# Altium integrated library ST Microcontroller 8-Bit.IntLib: 1326 symbols (part 44 of 45)
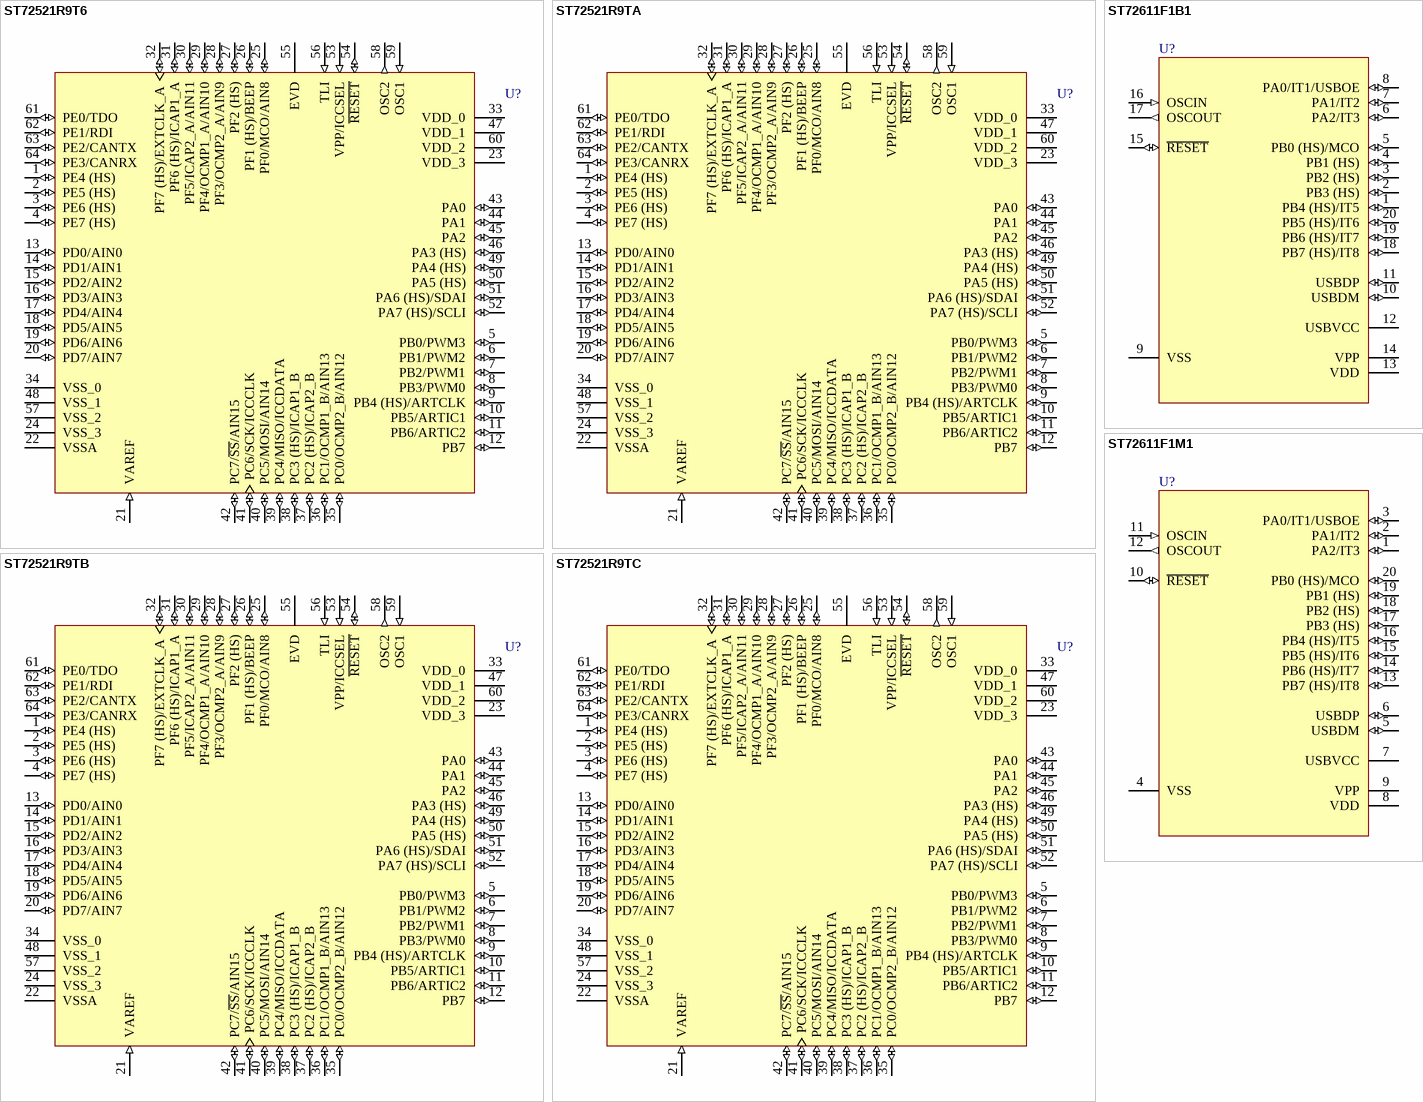
[diagram p210: symbols ST72521R9T6 to ST72611F1M1]

## ST72611F1M1
designator U?
8-Bit MCU with 4k ROM, 256b RAM, Low Speed USB with Three Endpoints, LVD, WDG and Timer, 20-Pin SOIC; Published: 26-May-2004; LatestRevisionDate: 13-Apr-2006; LatestRevisionNote: IPC-7351 Footprint Added.; DatasheetVersion: rev2.1, Jun-2003; PackageVersion: Jul-2001; PackageReference: SO20; Publisher: Altium Limited; PackageDescription: 20-Pin Plastic Small Outline Integrated Circuit 1.27 mm Pitch; Code_JEDEC: MS-013-AC; Code_IPC: SOIC127P1030-20; ComponentLink1Description: Manufacturer Link; ComponentLink1URL: http://www.st.com/; ComponentLink2Description: Datasheet; ComponentLink2URL: http://www.st.com/stonline/products/literature/ds/7212/st7261.pdf
footprint SO20_N (SOIC, 20-Leads, Body 12.8x7.5mm, Pitch 1.27mm, IPC Medium Density)
footprint SO20_L (SOIC, 20-Leads, Body 12.8x7.5mm, Pitch 1.27mm, IPC High Density)
footprint SO20_M (SOIC, 20-Leads, Body 12.8x7.5mm, Pitch 1.27mm, IPC Low Density)
3D model SO20 (20-Pin Plastic Small Outline Integrated Circuit 1.27 mm Pitch)
pins: 1 PA2/IT3 (io), 2 PA1/IT2 (io), 3 PA0/IT1/USBOE (io), 4 VSS (power), 5 USBDM (io), 6 USBDP (io), 7 USBVCC (power), 8 VDD (power), 9 VPP (power), 10 ~{RESET} (io), 11 OSCIN (in), 12 OSCOUT (out), 13 PB7 (HS)/IT8 (io), 14 PB6 (HS)/IT7 (io), 15 PB5 (HS)/IT6 (io), 16 PB4 (HS)/IT5 (io), 17 PB3 (HS) (io), 18 PB2 (HS) (io), 19 PB1 (HS) (io), 20 PB0 (HS)/MCO (io)

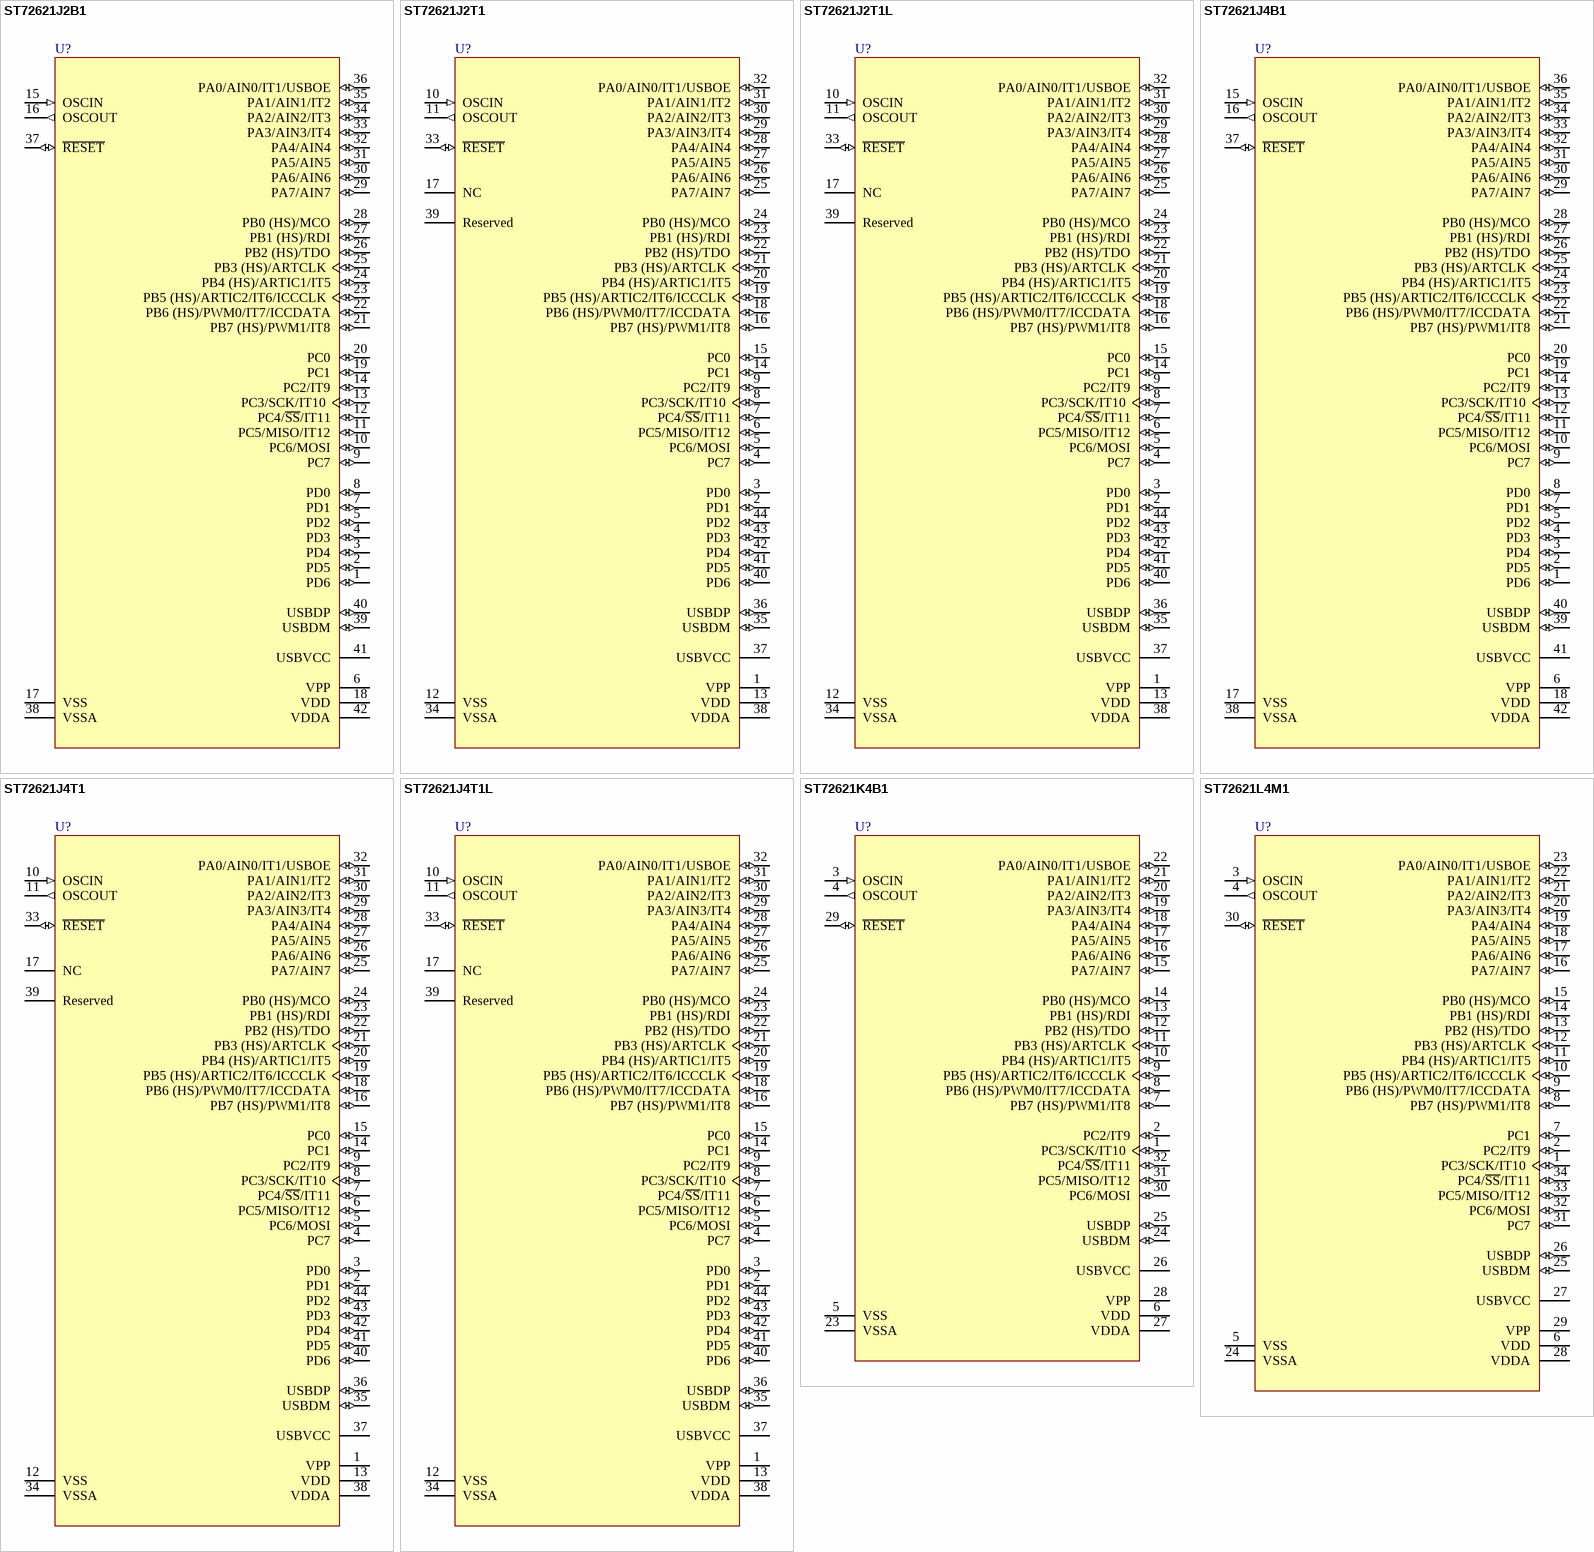
[diagram p160: symbols ST72621J2B1 to ST72621L4M1]

## ST72621J2B1
designator U?
8-Bit MCU with 8k ROM, 384b RAM, Low Speed USB, LVD, WDG, 10-Bit ADC, Two Timers, SCI and SPI, 42-Pin PDIP; Published: 26-May-2004; LatestRevisionDate: 06-Jun-2005; LatestRevisionNote: Stylized 3D Model Added.; DatasheetVersion: rev2.3, Oct-2003; PackageVersion: Oct-2003; PackageReference: PSDIP42; Publisher: Altium Limited; PackageDescription: DIP, Plastic Shrink; 42 Leads; Row Spacing 15.24 mm; Pitch 1.78 mm; ComponentLink1Description: Manufacturer Link; ComponentLink1URL: http://www.st.com/; ComponentLink2Description: Datasheet; ComponentLink2URL: http://www.st.com/stonline/products/literature/ds/6996/st72621j2.pdf
footprint PSDIP42 (DIP, Plastic Shrink; 42 Leads; Row Spacing 15.24 mm; Pitch 1.78 mm)
3D model PSDIP42 (DIP, Plastic Shrink; 42 Leads; Row Spacing 15.24 mm; Pitch 1.78 mm)
pins: 1 PD6 (io), 2 PD5 (io), 3 PD4 (io), 4 PD3 (io), 5 PD2 (io), 6 VPP (power), 7 PD1 (io), 8 PD0 (io), 9 PC7 (io), 10 PC6/MOSI (io), 11 PC5/MISO/IT12 (io), 12 PC4/~{SS}/IT11 (io), 13 PC3/SCK/IT10 (io), 14 PC2/IT9 (io), 15 OSCIN (in), 16 OSCOUT (out), 17 VSS (power), 18 VDD (power), 19 PC1 (io), 20 PC0 (io), 21 PB7 (HS)/PWM1/IT8 (io), 22 PB6 (HS)/PWM0/IT7/ICCDATA (io), 23 PB5 (HS)/ARTIC2/IT6/ICCCLK (io), 24 PB4 (HS)/ARTIC1/IT5 (io), 25 PB3 (HS)/ARTCLK (io), 26 PB2 (HS)/TDO (io), 27 PB1 (HS)/RDI (io), 28 PB0 (HS)/MCO (io), 29 PA7/AIN7 (io), 30 PA6/AIN6 (io), 31 PA5/AIN5 (io), 32 PA4/AIN4 (io), 33 PA3/AIN3/IT4 (io), 34 PA2/AIN2/IT3 (io), 35 PA1/AIN1/IT2 (io), 36 PA0/AIN0/IT1/USBOE (io), 37 ~{RESET} (io), 38 VSSA (power), 39 USBDM (io), 40 USBDP (io), 41 USBVCC (power), 42 VDDA (power)

## ST72621J2T1
designator U?
8-Bit MCU with 8k ROM, 384b RAM, Low Speed USB, LVD, WDG, 10-Bit ADC, Two Timers, SCI and SPI, 44-Pin TQFP; Published: 26-May-2004; LatestRevisionDate: 13-Apr-2006; LatestRevisionNote: IPC-7351 Footprint Added.; DatasheetVersion: rev2.3, Oct-2003; PackageVersion: Oct-2003; PackageReference: TQFP44; Publisher: Altium Limited; PackageDescription: 44-Pin Thin Plastic Quad Flat Pack 0.8 mm Pitch; ComponentLink1Description: Manufacturer Link; ComponentLink1URL: http://www.st.com/; ComponentLink2Description: Datasheet; ComponentLink2URL: http://www.st.com/stonline/products/literature/ds/6996/st72621j2.pdf
footprint TQFP44_N (Thin QFP, 44-Leads, Body 10x10mm, Pitch 0.8mm, IPC Medium Density)
footprint TQFP44_L (Thin QFP, 44-Leads, Body 10x10mm, Pitch 0.8mm, IPC High Density)
footprint TQFP44_M (Thin QFP, 44-Leads, Body 10x10mm, Pitch 0.8mm, IPC Low Density)
3D model ST72621-TQFP44 (44-Pin Thin Plastic Quad Flat Pack 0.8 mm Pitch)
pins: 1 VPP (power), 2 PD1 (io), 3 PD0 (io), 4 PC7 (io), 5 PC6/MOSI (io), 6 PC5/MISO/IT12 (io), 7 PC4/~{SS}/IT11 (io), 8 PC3/SCK/IT10 (io), 9 PC2/IT9 (io), 10 OSCIN (in), 11 OSCOUT (out), 12 VSS (power), 13 VDD (power), 14 PC1 (io), 15 PC0 (io), 16 PB7 (HS)/PWM1/IT8 (io), 17 NC, 18 PB6 (HS)/PWM0/IT7/ICCDATA (io), 19 PB5 (HS)/ARTIC2/IT6/ICCCLK (io), 20 PB4 (HS)/ARTIC1/IT5 (io), 21 PB3 (HS)/ARTCLK (io), 22 PB2 (HS)/TDO (io), 23 PB1 (HS)/RDI (io), 24 PB0 (HS)/MCO (io), 25 PA7/AIN7 (io), 26 PA6/AIN6 (io), 27 PA5/AIN5 (io), 28 PA4/AIN4 (io), 29 PA3/AIN3/IT4 (io), 30 PA2/AIN2/IT3 (io), 31 PA1/AIN1/IT2 (io), 32 PA0/AIN0/IT1/USBOE (io), 33 ~{RESET} (io), 34 VSSA (power), 35 USBDM (io), 36 USBDP (io), 37 USBVCC (power), 38 VDDA (power), 39 Reserved, 40 PD6 (io), 41 PD5 (io), 42 PD4 (io), 43 PD3 (io), 44 PD2 (io)

## ST72621J2T1L
designator U?
8-Bit MCU with 8k ROM, 384b RAM, Low Speed USB, LVD, WDG, 10-Bit ADC, Two Timers, SCI and SPI, 44-Pin TQFP, Low Voltage; Published: 26-May-2004; LatestRevisionDate: 13-Apr-2006; LatestRevisionNote: IPC-7351 Footprint Added.; DatasheetVersion: rev2.3, Oct-2003; PackageVersion: Oct-2003; PackageReference: TQFP44; Publisher: Altium Limited; PackageDescription: 44-Pin Thin Plastic Quad Flat Pack 0.8 mm Pitch; ComponentLink1Description: Manufacturer Link; ComponentLink1URL: http://www.st.com/; ComponentLink2Description: Datasheet; ComponentLink2URL: http://www.st.com/stonline/products/literature/ds/6996/st72621j2.pdf
footprint TQFP44_N (Thin QFP, 44-Leads, Body 10x10mm, Pitch 0.8mm, IPC Medium Density)
footprint TQFP44_L (Thin QFP, 44-Leads, Body 10x10mm, Pitch 0.8mm, IPC High Density)
footprint TQFP44_M (Thin QFP, 44-Leads, Body 10x10mm, Pitch 0.8mm, IPC Low Density)
3D model ST72621-TQFP44 (44-Pin Thin Plastic Quad Flat Pack 0.8 mm Pitch)
pins: 1 VPP (power), 2 PD1 (io), 3 PD0 (io), 4 PC7 (io), 5 PC6/MOSI (io), 6 PC5/MISO/IT12 (io), 7 PC4/~{SS}/IT11 (io), 8 PC3/SCK/IT10 (io), 9 PC2/IT9 (io), 10 OSCIN (in), 11 OSCOUT (out), 12 VSS (power), 13 VDD (power), 14 PC1 (io), 15 PC0 (io), 16 PB7 (HS)/PWM1/IT8 (io), 17 NC, 18 PB6 (HS)/PWM0/IT7/ICCDATA (io), 19 PB5 (HS)/ARTIC2/IT6/ICCCLK (io), 20 PB4 (HS)/ARTIC1/IT5 (io), 21 PB3 (HS)/ARTCLK (io), 22 PB2 (HS)/TDO (io), 23 PB1 (HS)/RDI (io), 24 PB0 (HS)/MCO (io), 25 PA7/AIN7 (io), 26 PA6/AIN6 (io), 27 PA5/AIN5 (io), 28 PA4/AIN4 (io), 29 PA3/AIN3/IT4 (io), 30 PA2/AIN2/IT3 (io), 31 PA1/AIN1/IT2 (io), 32 PA0/AIN0/IT1/USBOE (io), 33 ~{RESET} (io), 34 VSSA (power), 35 USBDM (io), 36 USBDP (io), 37 USBVCC (power), 38 VDDA (power), 39 Reserved, 40 PD6 (io), 41 PD5 (io), 42 PD4 (io), 43 PD3 (io), 44 PD2 (io)

## ST72621J4B1
designator U?
8-Bit MCU with 16k ROM, 768b RAM, Low Speed USB, LVD, WDG, 10-Bit ADC, Two Timers, SCI and SPI, 42-Pin PDIP; Published: 26-May-2004; LatestRevisionDate: 06-Jun-2005; LatestRevisionNote: Stylized 3D Model Added.; DatasheetVersion: rev2.3, Oct-2003; PackageVersion: Oct-2003; PackageReference: PSDIP42; Publisher: Altium Limited; PackageDescription: DIP, Plastic Shrink; 42 Leads; Row Spacing 15.24 mm; Pitch 1.78 mm; ComponentLink1Description: Manufacturer Link; ComponentLink1URL: http://www.st.com/; ComponentLink2Description: Datasheet; ComponentLink2URL: http://www.st.com/stonline/products/literature/ds/6996/st72621j4.pdf
footprint PSDIP42 (DIP, Plastic Shrink; 42 Leads; Row Spacing 15.24 mm; Pitch 1.78 mm)
3D model PSDIP42 (DIP, Plastic Shrink; 42 Leads; Row Spacing 15.24 mm; Pitch 1.78 mm)
pins: 1 PD6 (io), 2 PD5 (io), 3 PD4 (io), 4 PD3 (io), 5 PD2 (io), 6 VPP (power), 7 PD1 (io), 8 PD0 (io), 9 PC7 (io), 10 PC6/MOSI (io), 11 PC5/MISO/IT12 (io), 12 PC4/~{SS}/IT11 (io), 13 PC3/SCK/IT10 (io), 14 PC2/IT9 (io), 15 OSCIN (in), 16 OSCOUT (out), 17 VSS (power), 18 VDD (power), 19 PC1 (io), 20 PC0 (io), 21 PB7 (HS)/PWM1/IT8 (io), 22 PB6 (HS)/PWM0/IT7/ICCDATA (io), 23 PB5 (HS)/ARTIC2/IT6/ICCCLK (io), 24 PB4 (HS)/ARTIC1/IT5 (io), 25 PB3 (HS)/ARTCLK (io), 26 PB2 (HS)/TDO (io), 27 PB1 (HS)/RDI (io), 28 PB0 (HS)/MCO (io), 29 PA7/AIN7 (io), 30 PA6/AIN6 (io), 31 PA5/AIN5 (io), 32 PA4/AIN4 (io), 33 PA3/AIN3/IT4 (io), 34 PA2/AIN2/IT3 (io), 35 PA1/AIN1/IT2 (io), 36 PA0/AIN0/IT1/USBOE (io), 37 ~{RESET} (io), 38 VSSA (power), 39 USBDM (io), 40 USBDP (io), 41 USBVCC (power), 42 VDDA (power)

## ST72621J4T1
designator U?
8-Bit MCU with 16k ROM, 768b RAM, Low Speed USB, LVD, WDG, 10-Bit ADC, Two Timers, SCI and SPI, 44-Pin TQFP; Published: 26-May-2004; LatestRevisionDate: 13-Apr-2006; LatestRevisionNote: IPC-7351 Footprint Added.; DatasheetVersion: rev2.3, Oct-2003; PackageVersion: Oct-2003; PackageReference: TQFP44; Publisher: Altium Limited; PackageDescription: 44-Pin Thin Plastic Quad Flat Pack 0.8 mm Pitch; ComponentLink1Description: Manufacturer Link; ComponentLink1URL: http://www.st.com/; ComponentLink2Description: Datasheet; ComponentLink2URL: http://www.st.com/stonline/products/literature/ds/6996/st72621j4.pdf
footprint TQFP44_N (Thin QFP, 44-Leads, Body 10x10mm, Pitch 0.8mm, IPC Medium Density)
footprint TQFP44_L (Thin QFP, 44-Leads, Body 10x10mm, Pitch 0.8mm, IPC High Density)
footprint TQFP44_M (Thin QFP, 44-Leads, Body 10x10mm, Pitch 0.8mm, IPC Low Density)
3D model ST72621-TQFP44 (44-Pin Thin Plastic Quad Flat Pack 0.8 mm Pitch)
pins: 1 VPP (power), 2 PD1 (io), 3 PD0 (io), 4 PC7 (io), 5 PC6/MOSI (io), 6 PC5/MISO/IT12 (io), 7 PC4/~{SS}/IT11 (io), 8 PC3/SCK/IT10 (io), 9 PC2/IT9 (io), 10 OSCIN (in), 11 OSCOUT (out), 12 VSS (power), 13 VDD (power), 14 PC1 (io), 15 PC0 (io), 16 PB7 (HS)/PWM1/IT8 (io), 17 NC, 18 PB6 (HS)/PWM0/IT7/ICCDATA (io), 19 PB5 (HS)/ARTIC2/IT6/ICCCLK (io), 20 PB4 (HS)/ARTIC1/IT5 (io), 21 PB3 (HS)/ARTCLK (io), 22 PB2 (HS)/TDO (io), 23 PB1 (HS)/RDI (io), 24 PB0 (HS)/MCO (io), 25 PA7/AIN7 (io), 26 PA6/AIN6 (io), 27 PA5/AIN5 (io), 28 PA4/AIN4 (io), 29 PA3/AIN3/IT4 (io), 30 PA2/AIN2/IT3 (io), 31 PA1/AIN1/IT2 (io), 32 PA0/AIN0/IT1/USBOE (io), 33 ~{RESET} (io), 34 VSSA (power), 35 USBDM (io), 36 USBDP (io), 37 USBVCC (power), 38 VDDA (power), 39 Reserved, 40 PD6 (io), 41 PD5 (io), 42 PD4 (io), 43 PD3 (io), 44 PD2 (io)

## ST72621J4T1L
designator U?
8-Bit MCU with 16k ROM, 768b RAM, Low Speed USB, LVD, WDG, 10-Bit ADC, Two Timers, SCI and SPI, 44-Pin TQFP, Low Voltage; Published: 26-May-2004; LatestRevisionDate: 13-Apr-2006; LatestRevisionNote: IPC-7351 Footprint Added.; DatasheetVersion: rev2.3, Oct-2003; PackageVersion: Oct-2003; PackageReference: TQFP44; Publisher: Altium Limited; PackageDescription: 44-Pin Thin Plastic Quad Flat Pack 0.8 mm Pitch; ComponentLink1Description: Manufacturer Link; ComponentLink1URL: http://www.st.com/; ComponentLink2Description: Datasheet; ComponentLink2URL: http://www.st.com/stonline/products/literature/ds/6996/st72621j4.pdf
footprint TQFP44_N (Thin QFP, 44-Leads, Body 10x10mm, Pitch 0.8mm, IPC Medium Density)
footprint TQFP44_L (Thin QFP, 44-Leads, Body 10x10mm, Pitch 0.8mm, IPC High Density)
footprint TQFP44_M (Thin QFP, 44-Leads, Body 10x10mm, Pitch 0.8mm, IPC Low Density)
3D model ST72621-TQFP44 (44-Pin Thin Plastic Quad Flat Pack 0.8 mm Pitch)
pins: 1 VPP (power), 2 PD1 (io), 3 PD0 (io), 4 PC7 (io), 5 PC6/MOSI (io), 6 PC5/MISO/IT12 (io), 7 PC4/~{SS}/IT11 (io), 8 PC3/SCK/IT10 (io), 9 PC2/IT9 (io), 10 OSCIN (in), 11 OSCOUT (out), 12 VSS (power), 13 VDD (power), 14 PC1 (io), 15 PC0 (io), 16 PB7 (HS)/PWM1/IT8 (io), 17 NC, 18 PB6 (HS)/PWM0/IT7/ICCDATA (io), 19 PB5 (HS)/ARTIC2/IT6/ICCCLK (io), 20 PB4 (HS)/ARTIC1/IT5 (io), 21 PB3 (HS)/ARTCLK (io), 22 PB2 (HS)/TDO (io), 23 PB1 (HS)/RDI (io), 24 PB0 (HS)/MCO (io), 25 PA7/AIN7 (io), 26 PA6/AIN6 (io), 27 PA5/AIN5 (io), 28 PA4/AIN4 (io), 29 PA3/AIN3/IT4 (io), 30 PA2/AIN2/IT3 (io), 31 PA1/AIN1/IT2 (io), 32 PA0/AIN0/IT1/USBOE (io), 33 ~{RESET} (io), 34 VSSA (power), 35 USBDM (io), 36 USBDP (io), 37 USBVCC (power), 38 VDDA (power), 39 Reserved, 40 PD6 (io), 41 PD5 (io), 42 PD4 (io), 43 PD3 (io), 44 PD2 (io)

## ST72621K4B1
designator U?
8-Bit MCU with 16k ROM, 768b RAM, Low Speed USB, LVD, WDG, 10-Bit ADC, Two Timers, SCI, SPI, 32-Pin PDIP; Published: 26-May-2004; LatestRevisionDate: 06-Jun-2005; LatestRevisionNote: Stylized 3D Model Added.; DatasheetVersion: rev2.3, Oct-2003; PackageVersion: rev1.7, Oct-2001; PackageReference: PSDIP32; Publisher: Altium Limited; PackageDescription: DIP, Plastic Shrink; 32 Leads; Row Spacing 10.16 mm; Pitch 1.78 mm; ComponentLink1Description: Manufacturer Link; ComponentLink1URL: http://www.st.com/; ComponentLink2Description: Datasheet; ComponentLink2URL: http://www.st.com/stonline/products/literature/ds/6996/st72621k4.pdf
footprint PSDIP32 (DIP, Plastic Shrink; 32 Leads; Row Spacing 10.16 mm; Pitch 1.78 mm)
3D model PSDIP32 (DIP, Plastic Shrink; 32 Leads; Row Spacing 10.16 mm; Pitch 1.78 mm)
pins: 1 PC3/SCK/IT10 (io), 2 PC2/IT9 (io), 3 OSCIN (in), 4 OSCOUT (out), 5 VSS (power), 6 VDD (power), 7 PB7 (HS)/PWM1/IT8 (io), 8 PB6 (HS)/PWM0/IT7/ICCDATA (io), 9 PB5 (HS)/ARTIC2/IT6/ICCCLK (io), 10 PB4 (HS)/ARTIC1/IT5 (io), 11 PB3 (HS)/ARTCLK (io), 12 PB2 (HS)/TDO (io), 13 PB1 (HS)/RDI (io), 14 PB0 (HS)/MCO (io), 15 PA7/AIN7 (io), 16 PA6/AIN6 (io), 17 PA5/AIN5 (io), 18 PA4/AIN4 (io), 19 PA3/AIN3/IT4 (io), 20 PA2/AIN2/IT3 (io), 21 PA1/AIN1/IT2 (io), 22 PA0/AIN0/IT1/USBOE (io), 23 VSSA (power), 24 USBDM (io), 25 USBDP (io), 26 USBVCC (power), 27 VDDA (power), 28 VPP (power), 29 ~{RESET} (io), 30 PC6/MOSI (io), 31 PC5/MISO/IT12 (io), 32 PC4/~{SS}/IT11 (io)

## ST72621L4M1
designator U?
8-Bit MCU with 16k ROM, 768b RAM, Low Speed USB, LVD, WDG, 10-Bit ADC, Two Timers, SCI, SPI, 34-Pin SOIC; Published: 26-May-2004; LatestRevisionDate: 13-Apr-2006; LatestRevisionNote: IPC-7351 Footprint Added.; DatasheetVersion: rev2.3, Oct-2003; PackageVersion: rev1.7, Oct-2001; PackageReference: SO34S; Publisher: Altium Limited; PackageDescription: 34-Pin Small Outline Package 1.02 mm Pitch; ComponentLink1Description: Manufacturer Link; ComponentLink1URL: http://www.st.com/; ComponentLink2Description: Datasheet; ComponentLink2URL: http://www.st.com/stonline/products/literature/ds/6996/st72621l4.pdf
footprint SO34S_N (SOP, 34-Leads, Body 17.9x7.51mm, Pitch 1.02mm, IPC Medium Density)
footprint SO34S_L (SOP, 34-Leads, Body 17.9x7.51mm, Pitch 1.02mm, IPC High Density)
footprint SO34S_M (SOP, 34-Leads, Body 17.9x7.51mm, Pitch 1.02mm, IPC Low Density)
3D model SO34S (34-Pin Small Outline Package 1.02 mm Pitch)
pins: 1 PC3/SCK/IT10 (io), 2 PC2/IT9 (io), 3 OSCIN (in), 4 OSCOUT (out), 5 VSS (power), 6 VDD (power), 7 PC1 (io), 8 PB7 (HS)/PWM1/IT8 (io), 9 PB6 (HS)/PWM0/IT7/ICCDATA (io), 10 PB5 (HS)/ARTIC2/IT6/ICCCLK (io), 11 PB4 (HS)/ARTIC1/IT5 (io), 12 PB3 (HS)/ARTCLK (io), 13 PB2 (HS)/TDO (io), 14 PB1 (HS)/RDI (io), 15 PB0 (HS)/MCO (io), 16 PA7/AIN7 (io), 17 PA6/AIN6 (io), 18 PA5/AIN5 (io), 19 PA4/AIN4 (io), 20 PA3/AIN3/IT4 (io), 21 PA2/AIN2/IT3 (io), 22 PA1/AIN1/IT2 (io), 23 PA0/AIN0/IT1/USBOE (io), 24 VSSA (power), 25 USBDM (io), 26 USBDP (io), 27 USBVCC (power), 28 VDDA (power), 29 VPP (power), 30 ~{RESET} (io), 31 PC7 (io), 32 PC6/MOSI (io), 33 PC5/MISO/IT12 (io), 34 PC4/~{SS}/IT11 (io)

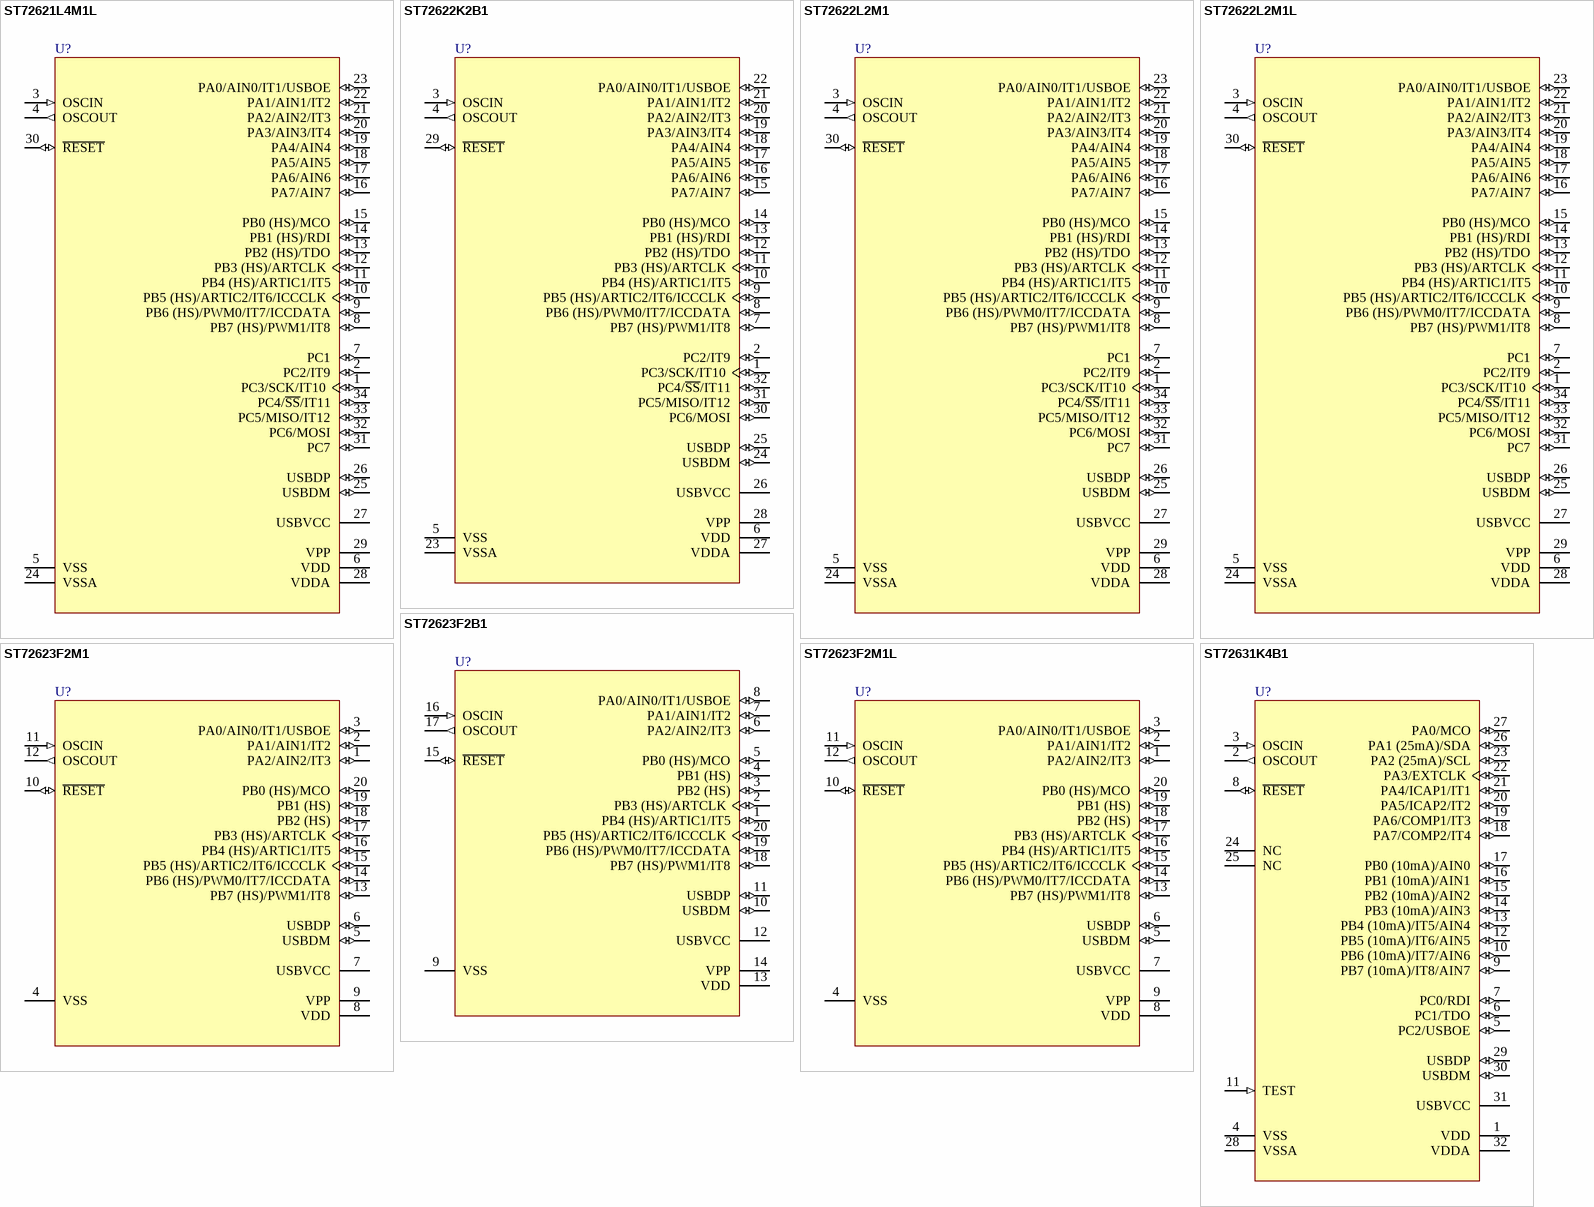
[diagram p161: symbols ST72621L4M1L to ST72631K4B1]

## ST72621L4M1L
designator U?
8-Bit MCU with 16k ROM, 768b RAM, Low Speed USB, LVD, WDG, 10-Bit ADC, Two Timers, SCI, SPI, 34-Pin SOIC, Low Voltage; Published: 26-May-2004; LatestRevisionDate: 13-Apr-2006; LatestRevisionNote: IPC-7351 Footprint Added.; DatasheetVersion: rev2.3, Oct-2003; PackageVersion: rev1.7, Oct-2001; PackageReference: SO34S; Publisher: Altium Limited; PackageDescription: 34-Pin Small Outline Package 1.02 mm Pitch; ComponentLink1Description: Manufacturer Link; ComponentLink1URL: http://www.st.com/; ComponentLink2Description: Datasheet; ComponentLink2URL: http://www.st.com/stonline/products/literature/ds/6996/st72621l4.pdf
footprint SO34S_N (SOP, 34-Leads, Body 17.9x7.51mm, Pitch 1.02mm, IPC Medium Density)
footprint SO34S_L (SOP, 34-Leads, Body 17.9x7.51mm, Pitch 1.02mm, IPC High Density)
footprint SO34S_M (SOP, 34-Leads, Body 17.9x7.51mm, Pitch 1.02mm, IPC Low Density)
3D model SO34S (34-Pin Small Outline Package 1.02 mm Pitch)
pins: 1 PC3/SCK/IT10 (io), 2 PC2/IT9 (io), 3 OSCIN (in), 4 OSCOUT (out), 5 VSS (power), 6 VDD (power), 7 PC1 (io), 8 PB7 (HS)/PWM1/IT8 (io), 9 PB6 (HS)/PWM0/IT7/ICCDATA (io), 10 PB5 (HS)/ARTIC2/IT6/ICCCLK (io), 11 PB4 (HS)/ARTIC1/IT5 (io), 12 PB3 (HS)/ARTCLK (io), 13 PB2 (HS)/TDO (io), 14 PB1 (HS)/RDI (io), 15 PB0 (HS)/MCO (io), 16 PA7/AIN7 (io), 17 PA6/AIN6 (io), 18 PA5/AIN5 (io), 19 PA4/AIN4 (io), 20 PA3/AIN3/IT4 (io), 21 PA2/AIN2/IT3 (io), 22 PA1/AIN1/IT2 (io), 23 PA0/AIN0/IT1/USBOE (io), 24 VSSA (power), 25 USBDM (io), 26 USBDP (io), 27 USBVCC (power), 28 VDDA (power), 29 VPP (power), 30 ~{RESET} (io), 31 PC7 (io), 32 PC6/MOSI (io), 33 PC5/MISO/IT12 (io), 34 PC4/~{SS}/IT11 (io)

## ST72622K2B1
designator U?
8-Bit MCU with 8k ROM, 384b RAM, Low Speed USB, LVD, WDG, 10-Bit ADC, Two Timers and SPI, 32-Pin PDIP; Published: 26-May-2004; LatestRevisionDate: 06-Jun-2005; LatestRevisionNote: Stylized 3D Model Added.; DatasheetVersion: rev2.3, Oct-2003; PackageVersion: rev1.7, Oct-2001; PackageReference: PSDIP32; Publisher: Altium Limited; PackageDescription: DIP, Plastic Shrink; 32 Leads; Row Spacing 10.16 mm; Pitch 1.78 mm; ComponentLink1Description: Manufacturer Link; ComponentLink1URL: http://www.st.com/; ComponentLink2Description: Datasheet; ComponentLink2URL: http://www.st.com/stonline/products/literature/ds/6996/st72622k2.pdf
footprint PSDIP32 (DIP, Plastic Shrink; 32 Leads; Row Spacing 10.16 mm; Pitch 1.78 mm)
3D model PSDIP32 (DIP, Plastic Shrink; 32 Leads; Row Spacing 10.16 mm; Pitch 1.78 mm)
pins: 1 PC3/SCK/IT10 (io), 2 PC2/IT9 (io), 3 OSCIN (in), 4 OSCOUT (out), 5 VSS (power), 6 VDD (power), 7 PB7 (HS)/PWM1/IT8 (io), 8 PB6 (HS)/PWM0/IT7/ICCDATA (io), 9 PB5 (HS)/ARTIC2/IT6/ICCCLK (io), 10 PB4 (HS)/ARTIC1/IT5 (io), 11 PB3 (HS)/ARTCLK (io), 12 PB2 (HS)/TDO (io), 13 PB1 (HS)/RDI (io), 14 PB0 (HS)/MCO (io), 15 PA7/AIN7 (io), 16 PA6/AIN6 (io), 17 PA5/AIN5 (io), 18 PA4/AIN4 (io), 19 PA3/AIN3/IT4 (io), 20 PA2/AIN2/IT3 (io), 21 PA1/AIN1/IT2 (io), 22 PA0/AIN0/IT1/USBOE (io), 23 VSSA (power), 24 USBDM (io), 25 USBDP (io), 26 USBVCC (power), 27 VDDA (power), 28 VPP (power), 29 ~{RESET} (io), 30 PC6/MOSI (io), 31 PC5/MISO/IT12 (io), 32 PC4/~{SS}/IT11 (io)

## ST72622L2M1
designator U?
8-Bit MCU with 8k ROM, 384b RAM, Low Speed USB, LVD, WDG, 10-Bit ADC, Two Timers and SPI, 34-Pin SOIC; Published: 26-May-2004; LatestRevisionDate: 13-Apr-2006; LatestRevisionNote: IPC-7351 Footprint Added.; DatasheetVersion: rev2.3, Oct-2003; PackageVersion: rev1.7, Oct-2001; PackageReference: SO34S; Publisher: Altium Limited; PackageDescription: 34-Pin Small Outline Package 1.02 mm Pitch; ComponentLink1Description: Manufacturer Link; ComponentLink1URL: http://www.st.com/; ComponentLink2Description: Datasheet; ComponentLink2URL: http://www.st.com/stonline/products/literature/ds/6996/st72622l2.pdf
footprint SO34S_N (SOP, 34-Leads, Body 17.9x7.51mm, Pitch 1.02mm, IPC Medium Density)
footprint SO34S_L (SOP, 34-Leads, Body 17.9x7.51mm, Pitch 1.02mm, IPC High Density)
footprint SO34S_M (SOP, 34-Leads, Body 17.9x7.51mm, Pitch 1.02mm, IPC Low Density)
3D model SO34S (34-Pin Small Outline Package 1.02 mm Pitch)
pins: 1 PC3/SCK/IT10 (io), 2 PC2/IT9 (io), 3 OSCIN (in), 4 OSCOUT (out), 5 VSS (power), 6 VDD (power), 7 PC1 (io), 8 PB7 (HS)/PWM1/IT8 (io), 9 PB6 (HS)/PWM0/IT7/ICCDATA (io), 10 PB5 (HS)/ARTIC2/IT6/ICCCLK (io), 11 PB4 (HS)/ARTIC1/IT5 (io), 12 PB3 (HS)/ARTCLK (io), 13 PB2 (HS)/TDO (io), 14 PB1 (HS)/RDI (io), 15 PB0 (HS)/MCO (io), 16 PA7/AIN7 (io), 17 PA6/AIN6 (io), 18 PA5/AIN5 (io), 19 PA4/AIN4 (io), 20 PA3/AIN3/IT4 (io), 21 PA2/AIN2/IT3 (io), 22 PA1/AIN1/IT2 (io), 23 PA0/AIN0/IT1/USBOE (io), 24 VSSA (power), 25 USBDM (io), 26 USBDP (io), 27 USBVCC (power), 28 VDDA (power), 29 VPP (power), 30 ~{RESET} (io), 31 PC7 (io), 32 PC6/MOSI (io), 33 PC5/MISO/IT12 (io), 34 PC4/~{SS}/IT11 (io)

## ST72622L2M1L
designator U?
8-Bit MCU with 8k ROM, 384b RAM, Low Speed USB, LVD, WDG, 10-Bit ADC, Two Timers and SPI, 34-Pin SOIC, Low Voltage; Published: 26-May-2004; LatestRevisionDate: 13-Apr-2006; LatestRevisionNote: IPC-7351 Footprint Added.; DatasheetVersion: rev2.3, Oct-2003; PackageVersion: rev1.7, Oct-2001; PackageReference: SO34S; Publisher: Altium Limited; PackageDescription: 34-Pin Small Outline Package 1.02 mm Pitch; ComponentLink1Description: Manufacturer Link; ComponentLink1URL: http://www.st.com/; ComponentLink2Description: Datasheet; ComponentLink2URL: http://www.st.com/stonline/products/literature/ds/6996/st72622l2.pdf
footprint SO34S_N (SOP, 34-Leads, Body 17.9x7.51mm, Pitch 1.02mm, IPC Medium Density)
footprint SO34S_L (SOP, 34-Leads, Body 17.9x7.51mm, Pitch 1.02mm, IPC High Density)
footprint SO34S_M (SOP, 34-Leads, Body 17.9x7.51mm, Pitch 1.02mm, IPC Low Density)
3D model SO34S (34-Pin Small Outline Package 1.02 mm Pitch)
pins: 1 PC3/SCK/IT10 (io), 2 PC2/IT9 (io), 3 OSCIN (in), 4 OSCOUT (out), 5 VSS (power), 6 VDD (power), 7 PC1 (io), 8 PB7 (HS)/PWM1/IT8 (io), 9 PB6 (HS)/PWM0/IT7/ICCDATA (io), 10 PB5 (HS)/ARTIC2/IT6/ICCCLK (io), 11 PB4 (HS)/ARTIC1/IT5 (io), 12 PB3 (HS)/ARTCLK (io), 13 PB2 (HS)/TDO (io), 14 PB1 (HS)/RDI (io), 15 PB0 (HS)/MCO (io), 16 PA7/AIN7 (io), 17 PA6/AIN6 (io), 18 PA5/AIN5 (io), 19 PA4/AIN4 (io), 20 PA3/AIN3/IT4 (io), 21 PA2/AIN2/IT3 (io), 22 PA1/AIN1/IT2 (io), 23 PA0/AIN0/IT1/USBOE (io), 24 VSSA (power), 25 USBDM (io), 26 USBDP (io), 27 USBVCC (power), 28 VDDA (power), 29 VPP (power), 30 ~{RESET} (io), 31 PC7 (io), 32 PC6/MOSI (io), 33 PC5/MISO/IT12 (io), 34 PC4/~{SS}/IT11 (io)

## ST72623F2B1
designator U?
8-Bit MCU with 8k ROM, 384b RAM, Low Speed USB, LVD, WDG, 10-Bit ADC and Two Timers, 20-Pin PDIP; Published: 26-May-2004; LatestRevisionDate: 06-Jun-2005; LatestRevisionNote: Stylized 3D Model Added.; DatasheetVersion: rev2.3, Oct-2003; PackageVersion: Jul-2003; PackageReference: PDIP20; Publisher: Altium Limited; PackageDescription: DIP; 20 Leads; Row Spacing 7.62 mm; Pitch 2.54 mm; Code_JEDEC: MS-001-AD; ComponentLink1Description: Manufacturer Link; ComponentLink1URL: http://www.st.com/; ComponentLink2Description: Datasheet; ComponentLink2URL: http://www.st.com/stonline/products/literature/ds/6996/st72623f2.pdf
footprint PDIP20 (DIP; 20 Leads; Row Spacing 7.62 mm; Pitch 2.54 mm)
3D model PDIP20 (DIP; 20 Leads; Row Spacing 7.62 mm; Pitch 2.54 mm)
pins: 1 PB4 (HS)/ARTIC1/IT5 (io), 2 PB3 (HS)/ARTCLK (io), 3 PB2 (HS) (io), 4 PB1 (HS) (io), 5 PB0 (HS)/MCO (io), 6 PA2/AIN2/IT3 (io), 7 PA1/AIN1/IT2 (io), 8 PA0/AIN0/IT1/USBOE (io), 9 VSS (power), 10 USBDM (io), 11 USBDP (io), 12 USBVCC (power), 13 VDD (power), 14 VPP (power), 15 ~{RESET} (io), 16 OSCIN (in), 17 OSCOUT (out), 18 PB7 (HS)/PWM1/IT8 (io), 19 PB6 (HS)/PWM0/IT7/ICCDATA (io), 20 PB5 (HS)/ARTIC2/IT6/ICCCLK (io)

## ST72623F2M1
designator U?
8-Bit MCU with 8k ROM, 384b RAM, Low Speed USB, LVD, WDG, 10-Bit ADC and Two Timers, 20-Pin SOIC; Published: 26-May-2004; LatestRevisionDate: 13-Apr-2006; LatestRevisionNote: IPC-7351 Footprint Added.; DatasheetVersion: rev2.3, Oct-2003; PackageVersion: Jul-2001; PackageReference: SO20; Publisher: Altium Limited; PackageDescription: 20-Pin Plastic Small Outline Integrated Circuit 1.27 mm Pitch; Code_JEDEC: MS-013-AC; Code_IPC: SOIC127P1030-20; ComponentLink1Description: Manufacturer Link; ComponentLink1URL: http://www.st.com/; ComponentLink2Description: Datasheet; ComponentLink2URL: http://www.st.com/stonline/products/literature/ds/6996/st72623f2.pdf
footprint SO20_N (SOIC, 20-Leads, Body 12.8x7.5mm, Pitch 1.27mm, IPC Medium Density)
footprint SO20_L (SOIC, 20-Leads, Body 12.8x7.5mm, Pitch 1.27mm, IPC High Density)
footprint SO20_M (SOIC, 20-Leads, Body 12.8x7.5mm, Pitch 1.27mm, IPC Low Density)
3D model SO20 (20-Pin Plastic Small Outline Integrated Circuit 1.27 mm Pitch)
pins: 1 PA2/AIN2/IT3 (io), 2 PA1/AIN1/IT2 (io), 3 PA0/AIN0/IT1/USBOE (io), 4 VSS (power), 5 USBDM (io), 6 USBDP (io), 7 USBVCC (power), 8 VDD (power), 9 VPP (power), 10 ~{RESET} (io), 11 OSCIN (in), 12 OSCOUT (out), 13 PB7 (HS)/PWM1/IT8 (io), 14 PB6 (HS)/PWM0/IT7/ICCDATA (io), 15 PB5 (HS)/ARTIC2/IT6/ICCCLK (io), 16 PB4 (HS)/ARTIC1/IT5 (io), 17 PB3 (HS)/ARTCLK (io), 18 PB2 (HS) (io), 19 PB1 (HS) (io), 20 PB0 (HS)/MCO (io)

## ST72623F2M1L
designator U?
8-Bit MCU with 8k ROM, 384b RAM, Low Speed USB, LVD, WDG, 10-Bit ADC and Two Timers, 20-Pin SOIC, Low Voltage; Published: 26-May-2004; LatestRevisionDate: 13-Apr-2006; LatestRevisionNote: IPC-7351 Footprint Added.; DatasheetVersion: rev2.3, Oct-2003; PackageVersion: Jul-2001; PackageReference: SO20; Publisher: Altium Limited; PackageDescription: 20-Pin Plastic Small Outline Integrated Circuit 1.27 mm Pitch; Code_JEDEC: MS-013-AC; Code_IPC: SOIC127P1030-20; ComponentLink1Description: Manufacturer Link; ComponentLink1URL: http://www.st.com/; ComponentLink2Description: Datasheet; ComponentLink2URL: http://www.st.com/stonline/products/literature/ds/6996/st72623f2.pdf
footprint SO20_N (SOIC, 20-Leads, Body 12.8x7.5mm, Pitch 1.27mm, IPC Medium Density)
footprint SO20_L (SOIC, 20-Leads, Body 12.8x7.5mm, Pitch 1.27mm, IPC High Density)
footprint SO20_M (SOIC, 20-Leads, Body 12.8x7.5mm, Pitch 1.27mm, IPC Low Density)
3D model SO20 (20-Pin Plastic Small Outline Integrated Circuit 1.27 mm Pitch)
pins: 1 PA2/AIN2/IT3 (io), 2 PA1/AIN1/IT2 (io), 3 PA0/AIN0/IT1/USBOE (io), 4 VSS (power), 5 USBDM (io), 6 USBDP (io), 7 USBVCC (power), 8 VDD (power), 9 VPP (power), 10 ~{RESET} (io), 11 OSCIN (in), 12 OSCOUT (out), 13 PB7 (HS)/PWM1/IT8 (io), 14 PB6 (HS)/PWM0/IT7/ICCDATA (io), 15 PB5 (HS)/ARTIC2/IT6/ICCCLK (io), 16 PB4 (HS)/ARTIC1/IT5 (io), 17 PB3 (HS)/ARTCLK (io), 18 PB2 (HS) (io), 19 PB1 (HS) (io), 20 PB0 (HS)/MCO (io)

## ST72631K4B1
designator U?
8-Bit MCU with 16k ROM, 512b RAM, Low Speed USB, 8-Bit ADC, WDG, 16-Bit Timer, SCI, USB and I²C, 32-Pin PDIP; Published: 26-May-2004; LatestRevisionDate: 06-Jun-2005; LatestRevisionNote: Stylized 3D Model Added.; DatasheetVersion: rev1.8, Aug-2000; PackageVersion: rev1.7, Oct-2001; PackageReference: PSDIP32; Publisher: Altium Limited; PackageDescription: DIP, Plastic Shrink; 32 Leads; Row Spacing 10.16 mm; Pitch 1.78 mm; ComponentLink1Description: Manufacturer Link; ComponentLink1URL: http://www.st.com/; ComponentLink2Description: Datasheet; ComponentLink2URL: http://www.st.com/stonline/products/literature/ds/6341/st72631k4.pdf
footprint PSDIP32 (DIP, Plastic Shrink; 32 Leads; Row Spacing 10.16 mm; Pitch 1.78 mm)
3D model PSDIP32 (DIP, Plastic Shrink; 32 Leads; Row Spacing 10.16 mm; Pitch 1.78 mm)
pins: 1 VDD (power), 2 OSCOUT (out), 3 OSCIN (in), 4 VSS (power), 5 PC2/USBOE (io), 6 PC1/TDO (io), 7 PC0/RDI (io), 8 ~{RESET} (io), 9 PB7 (10mA)/IT8/AIN7 (io), 10 PB6 (10mA)/IT7/AIN6 (io), 11 TEST (in), 12 PB5 (10mA)/IT6/AIN5 (io), 13 PB4 (10mA)/IT5/AIN4 (io), 14 PB3 (10mA)/AIN3 (io), 15 PB2 (10mA)/AIN2 (io), 16 PB1 (10mA)/AIN1 (io), 17 PB0 (10mA)/AIN0 (io), 18 PA7/COMP2/IT4 (io), 19 PA6/COMP1/IT3 (io), 20 PA5/ICAP2/IT2 (io), 21 PA4/ICAP1/IT1 (io), 22 PA3/EXTCLK (io), 23 PA2 (25mA)/SCL (io), 24 NC, 25 NC, 26 PA1 (25mA)/SDA (io), 27 PA0/MCO (io), 28 VSSA (power), 29 USBDP (io), 30 USBDM (io), 31 USBVCC (power), 32 VDDA (power)

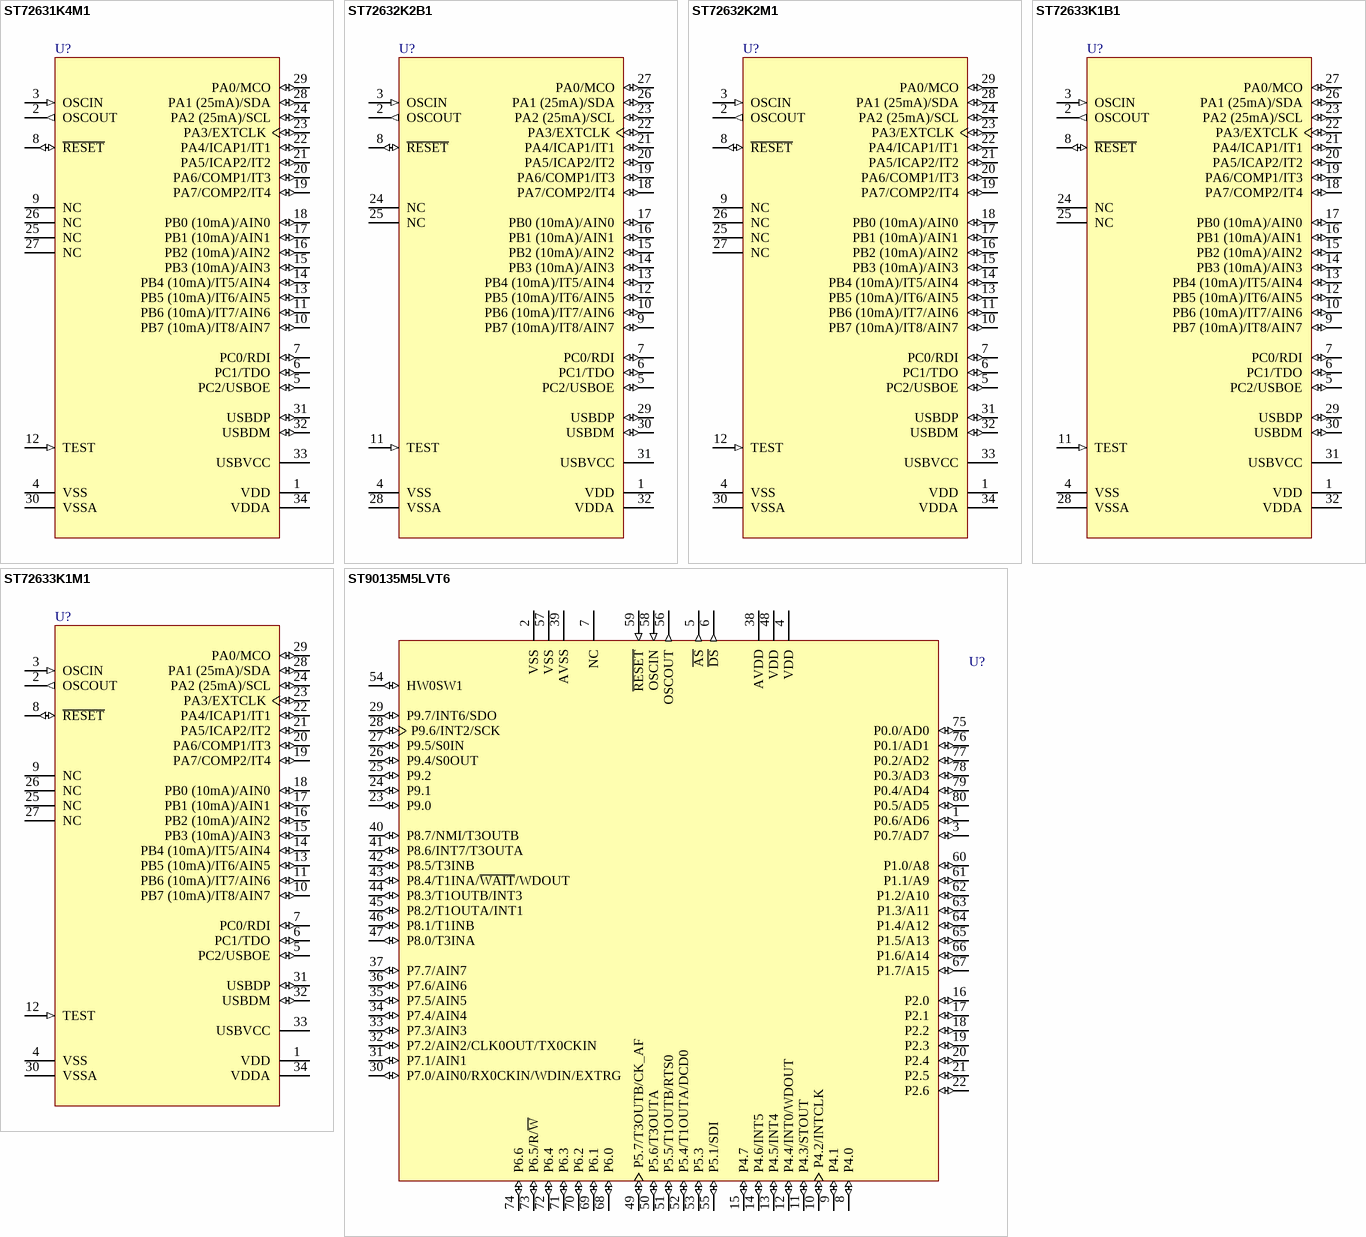
[diagram p162: symbols ST72631K4M1 to ST90135M5LVT6]

## ST72631K4M1
designator U?
8-Bit MCU with 16k ROM, 512b RAM, Low Speed USB, 8-Bit ADC, WDG, 16-Bit Timer, SCI, USB and I²C, 34-Pin SOIC; Published: 26-May-2004; LatestRevisionDate: 13-Apr-2006; LatestRevisionNote: IPC-7351 Footprint Added.; DatasheetVersion: rev1.8, Aug-2000; PackageVersion: rev1.7, Oct-2001; PackageReference: SO34S; Publisher: Altium Limited; PackageDescription: 34-Pin Small Outline Package 1.02 mm Pitch; ComponentLink1Description: Manufacturer Link; ComponentLink1URL: http://www.st.com/; ComponentLink2Description: Datasheet; ComponentLink2URL: http://www.st.com/stonline/products/literature/ds/6341/st72631k4.pdf
footprint SO34S_N (SOP, 34-Leads, Body 17.9x7.51mm, Pitch 1.02mm, IPC Medium Density)
footprint SO34S_L (SOP, 34-Leads, Body 17.9x7.51mm, Pitch 1.02mm, IPC High Density)
footprint SO34S_M (SOP, 34-Leads, Body 17.9x7.51mm, Pitch 1.02mm, IPC Low Density)
3D model SO34S (34-Pin Small Outline Package 1.02 mm Pitch)
pins: 1 VDD (power), 2 OSCOUT (out), 3 OSCIN (in), 4 VSS (power), 5 PC2/USBOE (io), 6 PC1/TDO (io), 7 PC0/RDI (io), 8 ~{RESET} (io), 9 NC, 10 PB7 (10mA)/IT8/AIN7 (io), 11 PB6 (10mA)/IT7/AIN6 (io), 12 TEST (in), 13 PB5 (10mA)/IT6/AIN5 (io), 14 PB4 (10mA)/IT5/AIN4 (io), 15 PB3 (10mA)/AIN3 (io), 16 PB2 (10mA)/AIN2 (io), 17 PB1 (10mA)/AIN1 (io), 18 PB0 (10mA)/AIN0 (io), 19 PA7/COMP2/IT4 (io), 20 PA6/COMP1/IT3 (io), 21 PA5/ICAP2/IT2 (io), 22 PA4/ICAP1/IT1 (io), 23 PA3/EXTCLK (io), 24 PA2 (25mA)/SCL (io), 25 NC, 26 NC, 27 NC, 28 PA1 (25mA)/SDA (io), 29 PA0/MCO (io), 30 VSSA (power), 31 USBDP (io), 32 USBDM (io), 33 USBVCC (power), 34 VDDA (power)

## ST72632K2B1
designator U?
8-Bit MCU with 8k ROM, 256b RAM, Low Speed USB, 8-Bit ADC, WDG, 16-Bit Timer, SCI and USB, 32-Pin PDIP; Published: 26-May-2004; LatestRevisionDate: 06-Jun-2005; LatestRevisionNote: Stylized 3D Model Added.; DatasheetVersion: rev1.8, Aug-2000; PackageVersion: rev1.7, Oct-2001; PackageReference: PSDIP32; Publisher: Altium Limited; PackageDescription: DIP, Plastic Shrink; 32 Leads; Row Spacing 10.16 mm; Pitch 1.78 mm; ComponentLink1Description: Manufacturer Link; ComponentLink1URL: http://www.st.com/; ComponentLink2Description: Datasheet; ComponentLink2URL: http://www.st.com/stonline/products/literature/ds/6341/st72631k4.pdf
footprint PSDIP32 (DIP, Plastic Shrink; 32 Leads; Row Spacing 10.16 mm; Pitch 1.78 mm)
3D model PSDIP32 (DIP, Plastic Shrink; 32 Leads; Row Spacing 10.16 mm; Pitch 1.78 mm)
pins: 1 VDD (power), 2 OSCOUT (out), 3 OSCIN (in), 4 VSS (power), 5 PC2/USBOE (io), 6 PC1/TDO (io), 7 PC0/RDI (io), 8 ~{RESET} (io), 9 PB7 (10mA)/IT8/AIN7 (io), 10 PB6 (10mA)/IT7/AIN6 (io), 11 TEST (in), 12 PB5 (10mA)/IT6/AIN5 (io), 13 PB4 (10mA)/IT5/AIN4 (io), 14 PB3 (10mA)/AIN3 (io), 15 PB2 (10mA)/AIN2 (io), 16 PB1 (10mA)/AIN1 (io), 17 PB0 (10mA)/AIN0 (io), 18 PA7/COMP2/IT4 (io), 19 PA6/COMP1/IT3 (io), 20 PA5/ICAP2/IT2 (io), 21 PA4/ICAP1/IT1 (io), 22 PA3/EXTCLK (io), 23 PA2 (25mA)/SCL (io), 24 NC, 25 NC, 26 PA1 (25mA)/SDA (io), 27 PA0/MCO (io), 28 VSSA (power), 29 USBDP (io), 30 USBDM (io), 31 USBVCC (power), 32 VDDA (power)

## ST72632K2M1
designator U?
8-Bit MCU with 8k ROM, 256b RAM, Low Speed USB, 8-Bit ADC, WDG, 16-Bit Timer, SCI and USB, 34-Pin SOIC; Published: 26-May-2004; LatestRevisionDate: 13-Apr-2006; LatestRevisionNote: IPC-7351 Footprint Added.; DatasheetVersion: rev1.8, Aug-2000; PackageVersion: rev1.7, Oct-2001; PackageReference: SO34S; Publisher: Altium Limited; PackageDescription: 34-Pin Small Outline Package 1.02 mm Pitch; ComponentLink1Description: Manufacturer Link; ComponentLink1URL: http://www.st.com/; ComponentLink2Description: Datasheet; ComponentLink2URL: http://www.st.com/stonline/products/literature/ds/6341/st72631k4.pdf
footprint SO34S_N (SOP, 34-Leads, Body 17.9x7.51mm, Pitch 1.02mm, IPC Medium Density)
footprint SO34S_L (SOP, 34-Leads, Body 17.9x7.51mm, Pitch 1.02mm, IPC High Density)
footprint SO34S_M (SOP, 34-Leads, Body 17.9x7.51mm, Pitch 1.02mm, IPC Low Density)
3D model SO34S (34-Pin Small Outline Package 1.02 mm Pitch)
pins: 1 VDD (power), 2 OSCOUT (out), 3 OSCIN (in), 4 VSS (power), 5 PC2/USBOE (io), 6 PC1/TDO (io), 7 PC0/RDI (io), 8 ~{RESET} (io), 9 NC, 10 PB7 (10mA)/IT8/AIN7 (io), 11 PB6 (10mA)/IT7/AIN6 (io), 12 TEST (in), 13 PB5 (10mA)/IT6/AIN5 (io), 14 PB4 (10mA)/IT5/AIN4 (io), 15 PB3 (10mA)/AIN3 (io), 16 PB2 (10mA)/AIN2 (io), 17 PB1 (10mA)/AIN1 (io), 18 PB0 (10mA)/AIN0 (io), 19 PA7/COMP2/IT4 (io), 20 PA6/COMP1/IT3 (io), 21 PA5/ICAP2/IT2 (io), 22 PA4/ICAP1/IT1 (io), 23 PA3/EXTCLK (io), 24 PA2 (25mA)/SCL (io), 25 NC, 26 NC, 27 NC, 28 PA1 (25mA)/SDA (io), 29 PA0/MCO (io), 30 VSSA (power), 31 USBDP (io), 32 USBDM (io), 33 USBVCC (power), 34 VDDA (power)

## ST72633K1B1
designator U?
8-Bit MCU with 4k ROM, 256b RAM, Low Speed USB, 8-Bit ADC, WDG, 16-Bit Timer, USB, 32-Pin PDIP; Published: 26-May-2004; LatestRevisionDate: 06-Jun-2005; LatestRevisionNote: Stylized 3D Model Added.; DatasheetVersion: rev1.8, Aug-2000; PackageVersion: rev1.7, Oct-2001; PackageReference: PSDIP32; Publisher: Altium Limited; PackageDescription: DIP, Plastic Shrink; 32 Leads; Row Spacing 10.16 mm; Pitch 1.78 mm; ComponentLink1Description: Manufacturer Link; ComponentLink1URL: http://www.st.com/; ComponentLink2Description: Datasheet; ComponentLink2URL: http://www.st.com/stonline/products/literature/ds/6341/st72631k4.pdf
footprint PSDIP32 (DIP, Plastic Shrink; 32 Leads; Row Spacing 10.16 mm; Pitch 1.78 mm)
3D model PSDIP32 (DIP, Plastic Shrink; 32 Leads; Row Spacing 10.16 mm; Pitch 1.78 mm)
pins: 1 VDD (power), 2 OSCOUT (out), 3 OSCIN (in), 4 VSS (power), 5 PC2/USBOE (io), 6 PC1/TDO (io), 7 PC0/RDI (io), 8 ~{RESET} (io), 9 PB7 (10mA)/IT8/AIN7 (io), 10 PB6 (10mA)/IT7/AIN6 (io), 11 TEST (in), 12 PB5 (10mA)/IT6/AIN5 (io), 13 PB4 (10mA)/IT5/AIN4 (io), 14 PB3 (10mA)/AIN3 (io), 15 PB2 (10mA)/AIN2 (io), 16 PB1 (10mA)/AIN1 (io), 17 PB0 (10mA)/AIN0 (io), 18 PA7/COMP2/IT4 (io), 19 PA6/COMP1/IT3 (io), 20 PA5/ICAP2/IT2 (io), 21 PA4/ICAP1/IT1 (io), 22 PA3/EXTCLK (io), 23 PA2 (25mA)/SCL (io), 24 NC, 25 NC, 26 PA1 (25mA)/SDA (io), 27 PA0/MCO (io), 28 VSSA (power), 29 USBDP (io), 30 USBDM (io), 31 USBVCC (power), 32 VDDA (power)

## ST72633K1M1
designator U?
8-Bit MCU with 4k ROM, 256b RAM, Low Speed USB, 8-Bit ADC, WDG, 16-Bit Timer, USB, 34-Pin SOIC; Published: 26-May-2004; LatestRevisionDate: 13-Apr-2006; LatestRevisionNote: IPC-7351 Footprint Added.; DatasheetVersion: rev1.8, Aug-2000; PackageVersion: rev1.7, Oct-2001; PackageReference: SO34S; Publisher: Altium Limited; PackageDescription: 34-Pin Small Outline Package 1.02 mm Pitch; ComponentLink1Description: Manufacturer Link; ComponentLink1URL: http://www.st.com/; ComponentLink2Description: Datasheet; ComponentLink2URL: http://www.st.com/stonline/products/literature/ds/6341/st72631k4.pdf
footprint SO34S_N (SOP, 34-Leads, Body 17.9x7.51mm, Pitch 1.02mm, IPC Medium Density)
footprint SO34S_L (SOP, 34-Leads, Body 17.9x7.51mm, Pitch 1.02mm, IPC High Density)
footprint SO34S_M (SOP, 34-Leads, Body 17.9x7.51mm, Pitch 1.02mm, IPC Low Density)
3D model SO34S (34-Pin Small Outline Package 1.02 mm Pitch)
pins: 1 VDD (power), 2 OSCOUT (out), 3 OSCIN (in), 4 VSS (power), 5 PC2/USBOE (io), 6 PC1/TDO (io), 7 PC0/RDI (io), 8 ~{RESET} (io), 9 NC, 10 PB7 (10mA)/IT8/AIN7 (io), 11 PB6 (10mA)/IT7/AIN6 (io), 12 TEST (in), 13 PB5 (10mA)/IT6/AIN5 (io), 14 PB4 (10mA)/IT5/AIN4 (io), 15 PB3 (10mA)/AIN3 (io), 16 PB2 (10mA)/AIN2 (io), 17 PB1 (10mA)/AIN1 (io), 18 PB0 (10mA)/AIN0 (io), 19 PA7/COMP2/IT4 (io), 20 PA6/COMP1/IT3 (io), 21 PA5/ICAP2/IT2 (io), 22 PA4/ICAP1/IT1 (io), 23 PA3/EXTCLK (io), 24 PA2 (25mA)/SCL (io), 25 NC, 26 NC, 27 NC, 28 PA1 (25mA)/SDA (io), 29 PA0/MCO (io), 30 VSSA (power), 31 USBDP (io), 32 USBDM (io), 33 USBVCC (power), 34 VDDA (power)

## ST90135M5LVT6
designator U?
8/16-Bit MCU with 24k ROM, 768b RAM, ADC, Timers, SCI and SPI, 80-Pin TQFP, Low Voltage; Published: 26-May-2004; LatestRevisionDate: 13-Apr-2006; LatestRevisionNote: IPC-7351 Footprint Added.; DatasheetVersion: rev3.3, Jan-2001; PackageVersion: Jan-2001; PackageReference: TQFP80; Publisher: Altium Limited; PackageDescription: 80-Pin Thin Plastic Quad Flat Pack 0.65 mm Pitch; ComponentLink1Description: Manufacturer Link; ComponentLink1URL: http://www.st.com/
footprint TQFP80_N (Thin QFP, 80-Leads, Body 14 x 14mm, Pitch 0.65mm, IPC Medium Density)
footprint TQFP80_L (Thin QFP, 80-Leads, Body 14 x 14mm, Pitch 0.65mm, IPC High Density)
footprint TQFP80_M (Thin QFP, 80-Leads, Body 14 x 14mm, Pitch 0.65mm, IPC Low Density)
3D model ST90135-TQFP80 (80-Pin Thin Plastic Quad Flat Pack 0.65 mm Pitch)
pins: 1 P0.6/AD6 (io), 2 VSS (power), 3 P0.7/AD7 (io), 4 VDD (power), 5 ~{AS} (out), 6 ~{DS} (out), 7 NC, 8 P4.0 (io), 9 P4.1 (io), 10 P4.2/INTCLK (io), 11 P4.3/STOUT (io), 12 P4.4/INT0/WDOUT (io), 13 P4.5/INT4 (io), 14 P4.6/INT5 (io), 15 P4.7 (io), 16 P2.0 (io), 17 P2.1 (io), 18 P2.2 (io), 19 P2.3 (io), 20 P2.4 (io), 21 P2.5 (io), 22 P2.6 (io), 23 P9.0 (io), 24 P9.1 (io), 25 P9.2 (io), 26 P9.4/S0OUT (io), 27 P9.5/S0IN (io), 28 P9.6/INT2/SCK (io), 29 P9.7/INT6/SDO (io), 30 P7.0/AIN0/RX0CKIN/WDIN/EXTRG (io), 31 P7.1/AIN1 (io), 32 P7.2/AIN2/CLK0OUT/TX0CKIN (io), 33 P7.3/AIN3 (io), 34 P7.4/AIN4 (io), 35 P7.5/AIN5 (io), 36 P7.6/AIN6 (io), 37 P7.7/AIN7 (io), 38 AVDD (power), 39 AVSS (power), 40 P8.7/NMI/T3OUTB (io), 41 P8.6/INT7/T3OUTA (io), 42 P8.5/T3INB (io), 43 P8.4/T1INA/~{WAIT}/WDOUT (io), 44 P8.3/T1OUTB/INT3 (io), 45 P8.2/T1OUTA/INT1 (io), 46 P8.1/T1INB (io), 47 P8.0/T3INA (io), 48 VDD (power), 49 P5.7/T3OUTB/CK_AF (io), 50 P5.6/T3OUTA (io), 51 P5.5/T1OUTB/RTS0 (io), 52 P5.4/T1OUTA/DCD0 (io), 53 P5.3 (io), 54 HW0SW1 (io), 55 P5.1/SDI (io), 56 OSCOUT (out), 57 VSS (power), 58 OSCIN (in), 59 ~{RESET} (in), 60 P1.0/A8 (io), 61 P1.1/A9 (io), 62 P1.2/A10 (io), 63 P1.3/A11 (io), 64 P1.4/A12 (io), 65 P1.5/A13 (io), 66 P1.6/A14 (io), 67 P1.7/A15 (io), 68 P6.0 (io), 69 P6.1 (io), 70 P6.2 (io), 71 P6.3 (io), 72 P6.4 (io), 73 P6.5/R/~{W} (io), 74 P6.6 (io), 75 P0.0/AD0 (io), 76 P0.1/AD1 (io), 77 P0.2/AD2 (io), 78 P0.3/AD3 (io), 79 P0.4/AD4 (io), 80 P0.5/AD5 (io)

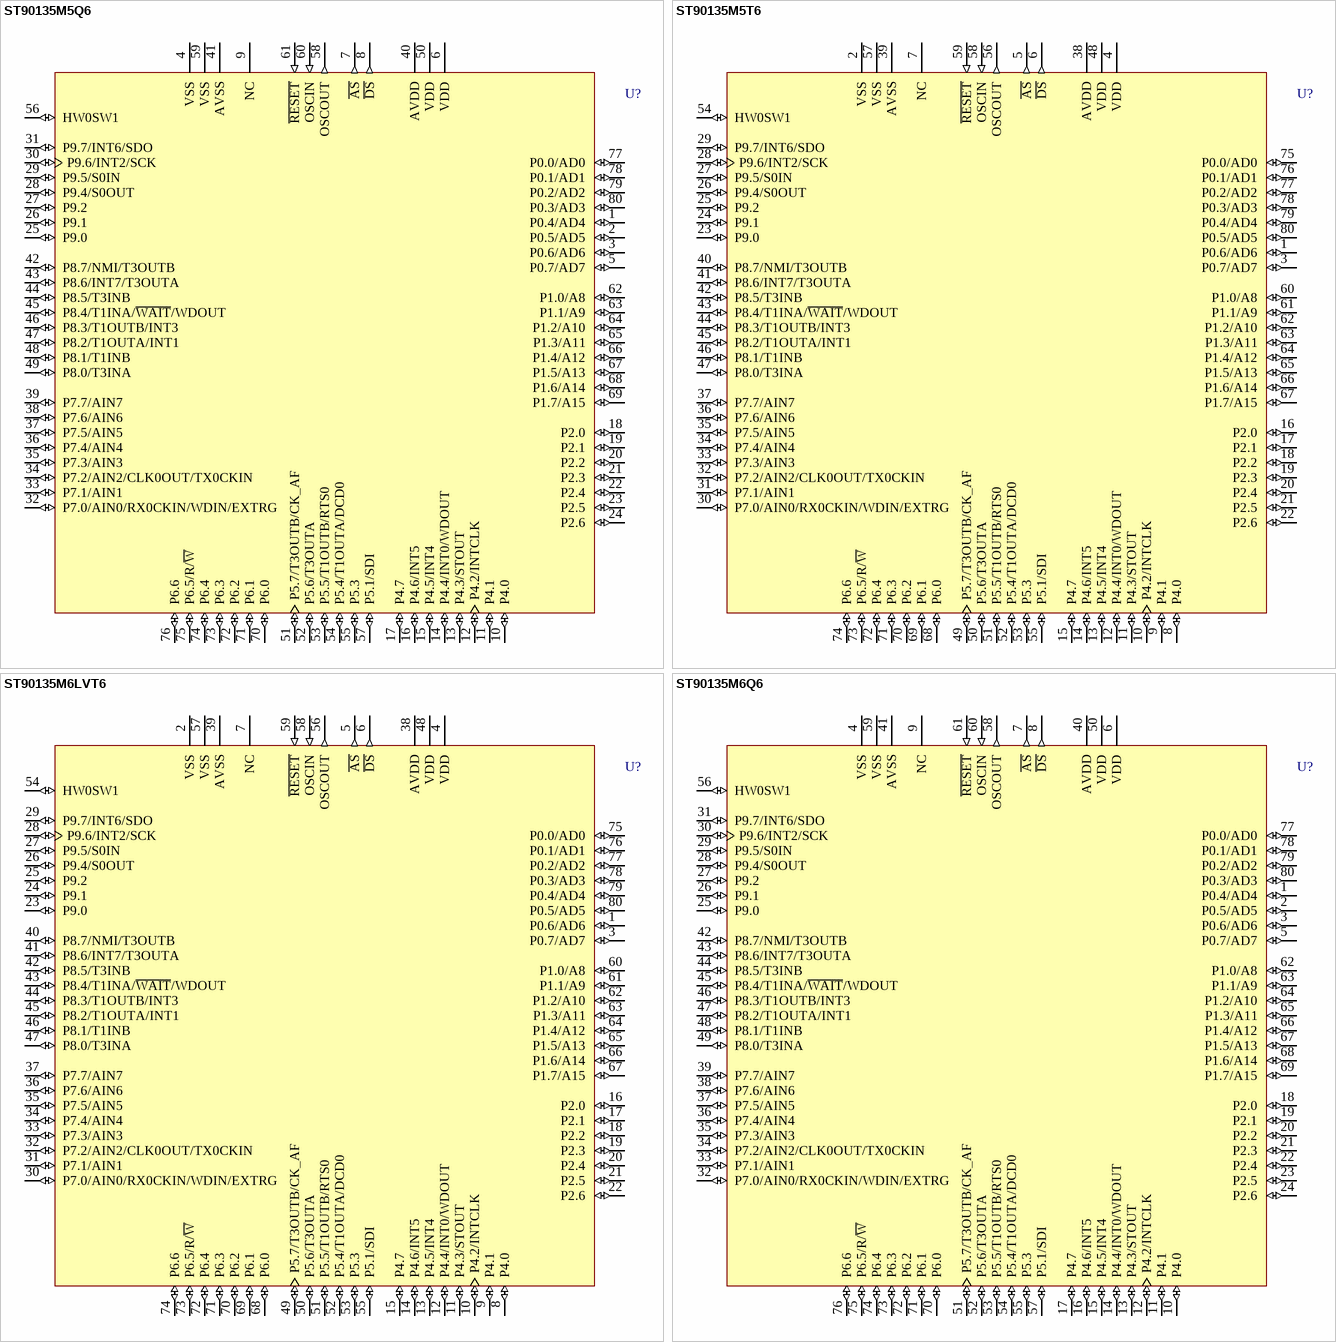
[diagram p163: symbols ST90135M5Q6 to ST90135M6Q6]

## ST90135M5Q6
designator U?
8/16-Bit MCU with 24k ROM, 768b RAM, ADC, Timers, SCI and SPI, 80-Pin PQFP; Published: 26-May-2004; LatestRevisionDate: 13-Apr-2006; LatestRevisionNote: IPC-7351 Footprint Added.; DatasheetVersion: rev3.3, Jan-2001; PackageVersion: Jul-2001; PackageReference: PQFP80; Publisher: Altium Limited; PackageDescription: 80-Pin Plastic Quad Flat Pack Rectangular 0.8 mm Pitch; ComponentLink1Description: Manufacturer Link; ComponentLink1URL: http://www.st.com/
footprint PQFP80_N (QFP, 80-Leads, Body 20x14mm, Pitch 0.8mm, IPC Medium Density)
footprint PQFP80_L (QFP, 80-Leads, Body 20x14mm, Pitch 0.8mm, IPC High Density)
footprint PQFP80_M (QFP, 80-Leads, Body 20x14mm, Pitch 0.8mm, IPC Low Density)
3D model ST90135-PQFP80 (80-Pin Plastic Quad Flat Pack Rectangular 0.8 mm Pitch)
pins: 1 P0.4/AD4 (io), 2 P0.5/AD5 (io), 3 P0.6/AD6 (io), 4 VSS (power), 5 P0.7/AD7 (io), 6 VDD (power), 7 ~{AS} (out), 8 ~{DS} (out), 9 NC, 10 P4.0 (io), 11 P4.1 (io), 12 P4.2/INTCLK (io), 13 P4.3/STOUT (io), 14 P4.4/INT0/WDOUT (io), 15 P4.5/INT4 (io), 16 P4.6/INT5 (io), 17 P4.7 (io), 18 P2.0 (io), 19 P2.1 (io), 20 P2.2 (io), 21 P2.3 (io), 22 P2.4 (io), 23 P2.5 (io), 24 P2.6 (io), 25 P9.0 (io), 26 P9.1 (io), 27 P9.2 (io), 28 P9.4/S0OUT (io), 29 P9.5/S0IN (io), 30 P9.6/INT2/SCK (io), 31 P9.7/INT6/SDO (io), 32 P7.0/AIN0/RX0CKIN/WDIN/EXTRG (io), 33 P7.1/AIN1 (io), 34 P7.2/AIN2/CLK0OUT/TX0CKIN (io), 35 P7.3/AIN3 (io), 36 P7.4/AIN4 (io), 37 P7.5/AIN5 (io), 38 P7.6/AIN6 (io), 39 P7.7/AIN7 (io), 40 AVDD (power), 41 AVSS (power), 42 P8.7/NMI/T3OUTB (io), 43 P8.6/INT7/T3OUTA (io), 44 P8.5/T3INB (io), 45 P8.4/T1INA/~{WAIT}/WDOUT (io), 46 P8.3/T1OUTB/INT3 (io), 47 P8.2/T1OUTA/INT1 (io), 48 P8.1/T1INB (io), 49 P8.0/T3INA (io), 50 VDD (power), 51 P5.7/T3OUTB/CK_AF (io), 52 P5.6/T3OUTA (io), 53 P5.5/T1OUTB/RTS0 (io), 54 P5.4/T1OUTA/DCD0 (io), 55 P5.3 (io), 56 HW0SW1 (io), 57 P5.1/SDI (io), 58 OSCOUT (out), 59 VSS (power), 60 OSCIN (in), 61 ~{RESET} (in), 62 P1.0/A8 (io), 63 P1.1/A9 (io), 64 P1.2/A10 (io), 65 P1.3/A11 (io), 66 P1.4/A12 (io), 67 P1.5/A13 (io), 68 P1.6/A14 (io), 69 P1.7/A15 (io), 70 P6.0 (io), 71 P6.1 (io), 72 P6.2 (io), 73 P6.3 (io), 74 P6.4 (io), 75 P6.5/R/~{W} (io), 76 P6.6 (io), 77 P0.0/AD0 (io), 78 P0.1/AD1 (io), 79 P0.2/AD2 (io), 80 P0.3/AD3 (io)

## ST90135M5T6
designator U?
8/16-Bit MCU with 24k ROM, 768b RAM, ADC, Timers, SCI and SPI, 80-Pin TQFP; Published: 26-May-2004; LatestRevisionDate: 13-Apr-2006; LatestRevisionNote: IPC-7351 Footprint Added.; DatasheetVersion: rev3.3, Jan-2001; PackageVersion: Jan-2001; PackageReference: TQFP80; Publisher: Altium Limited; PackageDescription: 80-Pin Thin Plastic Quad Flat Pack 0.65 mm Pitch; ComponentLink1Description: Manufacturer Link; ComponentLink1URL: http://www.st.com/
footprint TQFP80_N (Thin QFP, 80-Leads, Body 14 x 14mm, Pitch 0.65mm, IPC Medium Density)
footprint TQFP80_L (Thin QFP, 80-Leads, Body 14 x 14mm, Pitch 0.65mm, IPC High Density)
footprint TQFP80_M (Thin QFP, 80-Leads, Body 14 x 14mm, Pitch 0.65mm, IPC Low Density)
3D model ST90135-TQFP80 (80-Pin Thin Plastic Quad Flat Pack 0.65 mm Pitch)
pins: 1 P0.6/AD6 (io), 2 VSS (power), 3 P0.7/AD7 (io), 4 VDD (power), 5 ~{AS} (out), 6 ~{DS} (out), 7 NC, 8 P4.0 (io), 9 P4.1 (io), 10 P4.2/INTCLK (io), 11 P4.3/STOUT (io), 12 P4.4/INT0/WDOUT (io), 13 P4.5/INT4 (io), 14 P4.6/INT5 (io), 15 P4.7 (io), 16 P2.0 (io), 17 P2.1 (io), 18 P2.2 (io), 19 P2.3 (io), 20 P2.4 (io), 21 P2.5 (io), 22 P2.6 (io), 23 P9.0 (io), 24 P9.1 (io), 25 P9.2 (io), 26 P9.4/S0OUT (io), 27 P9.5/S0IN (io), 28 P9.6/INT2/SCK (io), 29 P9.7/INT6/SDO (io), 30 P7.0/AIN0/RX0CKIN/WDIN/EXTRG (io), 31 P7.1/AIN1 (io), 32 P7.2/AIN2/CLK0OUT/TX0CKIN (io), 33 P7.3/AIN3 (io), 34 P7.4/AIN4 (io), 35 P7.5/AIN5 (io), 36 P7.6/AIN6 (io), 37 P7.7/AIN7 (io), 38 AVDD (power), 39 AVSS (power), 40 P8.7/NMI/T3OUTB (io), 41 P8.6/INT7/T3OUTA (io), 42 P8.5/T3INB (io), 43 P8.4/T1INA/~{WAIT}/WDOUT (io), 44 P8.3/T1OUTB/INT3 (io), 45 P8.2/T1OUTA/INT1 (io), 46 P8.1/T1INB (io), 47 P8.0/T3INA (io), 48 VDD (power), 49 P5.7/T3OUTB/CK_AF (io), 50 P5.6/T3OUTA (io), 51 P5.5/T1OUTB/RTS0 (io), 52 P5.4/T1OUTA/DCD0 (io), 53 P5.3 (io), 54 HW0SW1 (io), 55 P5.1/SDI (io), 56 OSCOUT (out), 57 VSS (power), 58 OSCIN (in), 59 ~{RESET} (in), 60 P1.0/A8 (io), 61 P1.1/A9 (io), 62 P1.2/A10 (io), 63 P1.3/A11 (io), 64 P1.4/A12 (io), 65 P1.5/A13 (io), 66 P1.6/A14 (io), 67 P1.7/A15 (io), 68 P6.0 (io), 69 P6.1 (io), 70 P6.2 (io), 71 P6.3 (io), 72 P6.4 (io), 73 P6.5/R/~{W} (io), 74 P6.6 (io), 75 P0.0/AD0 (io), 76 P0.1/AD1 (io), 77 P0.2/AD2 (io), 78 P0.3/AD3 (io), 79 P0.4/AD4 (io), 80 P0.5/AD5 (io)

## ST90135M6LVT6
designator U?
8/16-Bit MCU with 32k ROM, 1k RAM, ADC, Timers, SCI and SPI, 80-Pin TQFP, Low Voltage; Published: 26-May-2004; LatestRevisionDate: 13-Apr-2006; LatestRevisionNote: IPC-7351 Footprint Added.; DatasheetVersion: rev3.3, Jan-2001; PackageVersion: Jan-2001; PackageReference: TQFP80; Publisher: Altium Limited; PackageDescription: 80-Pin Thin Plastic Quad Flat Pack 0.65 mm Pitch; ComponentLink1Description: Manufacturer Link; ComponentLink1URL: http://www.st.com/
footprint TQFP80_N (Thin QFP, 80-Leads, Body 14 x 14mm, Pitch 0.65mm, IPC Medium Density)
footprint TQFP80_L (Thin QFP, 80-Leads, Body 14 x 14mm, Pitch 0.65mm, IPC High Density)
footprint TQFP80_M (Thin QFP, 80-Leads, Body 14 x 14mm, Pitch 0.65mm, IPC Low Density)
3D model ST90135-TQFP80 (80-Pin Thin Plastic Quad Flat Pack 0.65 mm Pitch)
pins: 1 P0.6/AD6 (io), 2 VSS (power), 3 P0.7/AD7 (io), 4 VDD (power), 5 ~{AS} (out), 6 ~{DS} (out), 7 NC, 8 P4.0 (io), 9 P4.1 (io), 10 P4.2/INTCLK (io), 11 P4.3/STOUT (io), 12 P4.4/INT0/WDOUT (io), 13 P4.5/INT4 (io), 14 P4.6/INT5 (io), 15 P4.7 (io), 16 P2.0 (io), 17 P2.1 (io), 18 P2.2 (io), 19 P2.3 (io), 20 P2.4 (io), 21 P2.5 (io), 22 P2.6 (io), 23 P9.0 (io), 24 P9.1 (io), 25 P9.2 (io), 26 P9.4/S0OUT (io), 27 P9.5/S0IN (io), 28 P9.6/INT2/SCK (io), 29 P9.7/INT6/SDO (io), 30 P7.0/AIN0/RX0CKIN/WDIN/EXTRG (io), 31 P7.1/AIN1 (io), 32 P7.2/AIN2/CLK0OUT/TX0CKIN (io), 33 P7.3/AIN3 (io), 34 P7.4/AIN4 (io), 35 P7.5/AIN5 (io), 36 P7.6/AIN6 (io), 37 P7.7/AIN7 (io), 38 AVDD (power), 39 AVSS (power), 40 P8.7/NMI/T3OUTB (io), 41 P8.6/INT7/T3OUTA (io), 42 P8.5/T3INB (io), 43 P8.4/T1INA/~{WAIT}/WDOUT (io), 44 P8.3/T1OUTB/INT3 (io), 45 P8.2/T1OUTA/INT1 (io), 46 P8.1/T1INB (io), 47 P8.0/T3INA (io), 48 VDD (power), 49 P5.7/T3OUTB/CK_AF (io), 50 P5.6/T3OUTA (io), 51 P5.5/T1OUTB/RTS0 (io), 52 P5.4/T1OUTA/DCD0 (io), 53 P5.3 (io), 54 HW0SW1 (io), 55 P5.1/SDI (io), 56 OSCOUT (out), 57 VSS (power), 58 OSCIN (in), 59 ~{RESET} (in), 60 P1.0/A8 (io), 61 P1.1/A9 (io), 62 P1.2/A10 (io), 63 P1.3/A11 (io), 64 P1.4/A12 (io), 65 P1.5/A13 (io), 66 P1.6/A14 (io), 67 P1.7/A15 (io), 68 P6.0 (io), 69 P6.1 (io), 70 P6.2 (io), 71 P6.3 (io), 72 P6.4 (io), 73 P6.5/R/~{W} (io), 74 P6.6 (io), 75 P0.0/AD0 (io), 76 P0.1/AD1 (io), 77 P0.2/AD2 (io), 78 P0.3/AD3 (io), 79 P0.4/AD4 (io), 80 P0.5/AD5 (io)

## ST90135M6Q6
designator U?
8/16-Bit MCU with 32k ROM, 1k RAM, ADC, Timers, SCI and SPI, 80-Pin PQFP; Published: 26-May-2004; LatestRevisionDate: 13-Apr-2006; LatestRevisionNote: IPC-7351 Footprint Added.; DatasheetVersion: rev3.3, Jan-2001; PackageVersion: Jul-2001; PackageReference: PQFP80; Publisher: Altium Limited; PackageDescription: 80-Pin Plastic Quad Flat Pack Rectangular 0.8 mm Pitch; ComponentLink1Description: Manufacturer Link; ComponentLink1URL: http://www.st.com/
footprint PQFP80_N (QFP, 80-Leads, Body 20x14mm, Pitch 0.8mm, IPC Medium Density)
footprint PQFP80_L (QFP, 80-Leads, Body 20x14mm, Pitch 0.8mm, IPC High Density)
footprint PQFP80_M (QFP, 80-Leads, Body 20x14mm, Pitch 0.8mm, IPC Low Density)
3D model ST90135-PQFP80 (80-Pin Plastic Quad Flat Pack Rectangular 0.8 mm Pitch)
pins: 1 P0.4/AD4 (io), 2 P0.5/AD5 (io), 3 P0.6/AD6 (io), 4 VSS (power), 5 P0.7/AD7 (io), 6 VDD (power), 7 ~{AS} (out), 8 ~{DS} (out), 9 NC, 10 P4.0 (io), 11 P4.1 (io), 12 P4.2/INTCLK (io), 13 P4.3/STOUT (io), 14 P4.4/INT0/WDOUT (io), 15 P4.5/INT4 (io), 16 P4.6/INT5 (io), 17 P4.7 (io), 18 P2.0 (io), 19 P2.1 (io), 20 P2.2 (io), 21 P2.3 (io), 22 P2.4 (io), 23 P2.5 (io), 24 P2.6 (io), 25 P9.0 (io), 26 P9.1 (io), 27 P9.2 (io), 28 P9.4/S0OUT (io), 29 P9.5/S0IN (io), 30 P9.6/INT2/SCK (io), 31 P9.7/INT6/SDO (io), 32 P7.0/AIN0/RX0CKIN/WDIN/EXTRG (io), 33 P7.1/AIN1 (io), 34 P7.2/AIN2/CLK0OUT/TX0CKIN (io), 35 P7.3/AIN3 (io), 36 P7.4/AIN4 (io), 37 P7.5/AIN5 (io), 38 P7.6/AIN6 (io), 39 P7.7/AIN7 (io), 40 AVDD (power), 41 AVSS (power), 42 P8.7/NMI/T3OUTB (io), 43 P8.6/INT7/T3OUTA (io), 44 P8.5/T3INB (io), 45 P8.4/T1INA/~{WAIT}/WDOUT (io), 46 P8.3/T1OUTB/INT3 (io), 47 P8.2/T1OUTA/INT1 (io), 48 P8.1/T1INB (io), 49 P8.0/T3INA (io), 50 VDD (power), 51 P5.7/T3OUTB/CK_AF (io), 52 P5.6/T3OUTA (io), 53 P5.5/T1OUTB/RTS0 (io), 54 P5.4/T1OUTA/DCD0 (io), 55 P5.3 (io), 56 HW0SW1 (io), 57 P5.1/SDI (io), 58 OSCOUT (out), 59 VSS (power), 60 OSCIN (in), 61 ~{RESET} (in), 62 P1.0/A8 (io), 63 P1.1/A9 (io), 64 P1.2/A10 (io), 65 P1.3/A11 (io), 66 P1.4/A12 (io), 67 P1.5/A13 (io), 68 P1.6/A14 (io), 69 P1.7/A15 (io), 70 P6.0 (io), 71 P6.1 (io), 72 P6.2 (io), 73 P6.3 (io), 74 P6.4 (io), 75 P6.5/R/~{W} (io), 76 P6.6 (io), 77 P0.0/AD0 (io), 78 P0.1/AD1 (io), 79 P0.2/AD2 (io), 80 P0.3/AD3 (io)

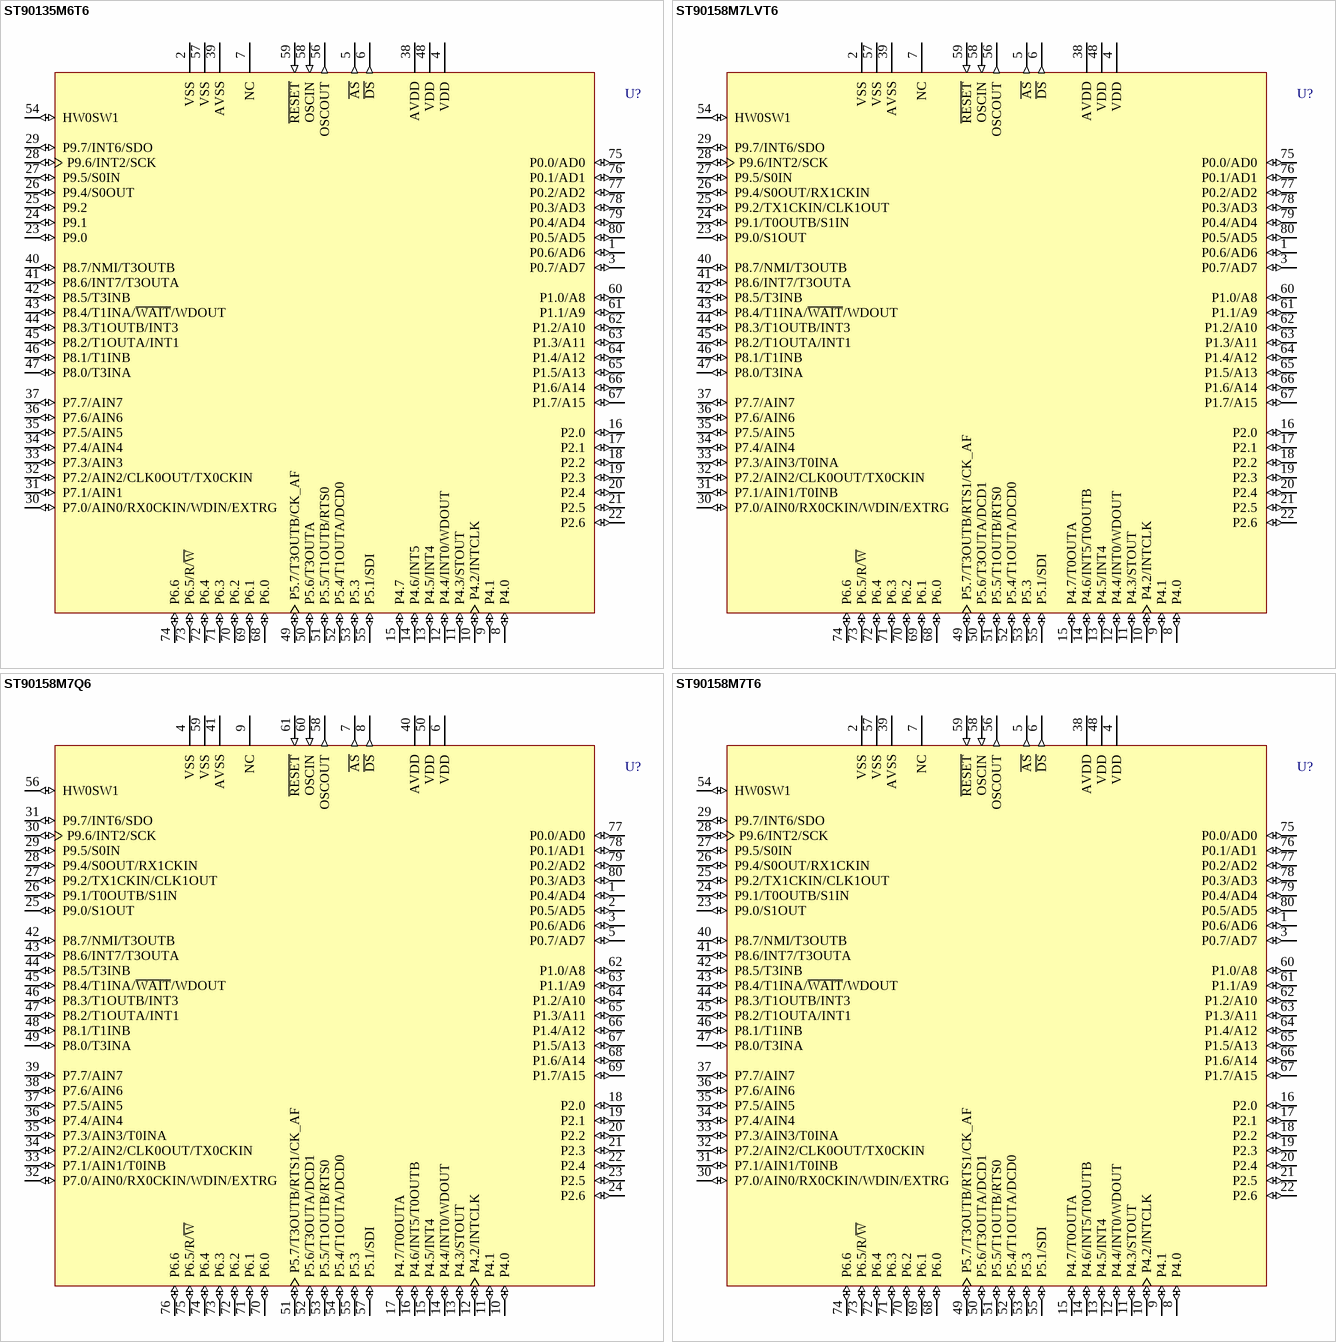
[diagram p164: symbols ST90135M6T6 to ST90158M7T6]

## ST90135M6T6
designator U?
8/16-Bit MCU with 32k ROM, 1k RAM, ADC, Timers, SCI and SPI, 80-Pin TQFP; Published: 26-May-2004; LatestRevisionDate: 13-Apr-2006; LatestRevisionNote: IPC-7351 Footprint Added.; DatasheetVersion: rev3.3, Jan-2001; PackageVersion: Jan-2001; PackageReference: TQFP80; Publisher: Altium Limited; PackageDescription: 80-Pin Thin Plastic Quad Flat Pack 0.65 mm Pitch; ComponentLink1Description: Manufacturer Link; ComponentLink1URL: http://www.st.com/
footprint TQFP80_N (Thin QFP, 80-Leads, Body 14 x 14mm, Pitch 0.65mm, IPC Medium Density)
footprint TQFP80_L (Thin QFP, 80-Leads, Body 14 x 14mm, Pitch 0.65mm, IPC High Density)
footprint TQFP80_M (Thin QFP, 80-Leads, Body 14 x 14mm, Pitch 0.65mm, IPC Low Density)
3D model ST90135-TQFP80 (80-Pin Thin Plastic Quad Flat Pack 0.65 mm Pitch)
pins: 1 P0.6/AD6 (io), 2 VSS (power), 3 P0.7/AD7 (io), 4 VDD (power), 5 ~{AS} (out), 6 ~{DS} (out), 7 NC, 8 P4.0 (io), 9 P4.1 (io), 10 P4.2/INTCLK (io), 11 P4.3/STOUT (io), 12 P4.4/INT0/WDOUT (io), 13 P4.5/INT4 (io), 14 P4.6/INT5 (io), 15 P4.7 (io), 16 P2.0 (io), 17 P2.1 (io), 18 P2.2 (io), 19 P2.3 (io), 20 P2.4 (io), 21 P2.5 (io), 22 P2.6 (io), 23 P9.0 (io), 24 P9.1 (io), 25 P9.2 (io), 26 P9.4/S0OUT (io), 27 P9.5/S0IN (io), 28 P9.6/INT2/SCK (io), 29 P9.7/INT6/SDO (io), 30 P7.0/AIN0/RX0CKIN/WDIN/EXTRG (io), 31 P7.1/AIN1 (io), 32 P7.2/AIN2/CLK0OUT/TX0CKIN (io), 33 P7.3/AIN3 (io), 34 P7.4/AIN4 (io), 35 P7.5/AIN5 (io), 36 P7.6/AIN6 (io), 37 P7.7/AIN7 (io), 38 AVDD (power), 39 AVSS (power), 40 P8.7/NMI/T3OUTB (io), 41 P8.6/INT7/T3OUTA (io), 42 P8.5/T3INB (io), 43 P8.4/T1INA/~{WAIT}/WDOUT (io), 44 P8.3/T1OUTB/INT3 (io), 45 P8.2/T1OUTA/INT1 (io), 46 P8.1/T1INB (io), 47 P8.0/T3INA (io), 48 VDD (power), 49 P5.7/T3OUTB/CK_AF (io), 50 P5.6/T3OUTA (io), 51 P5.5/T1OUTB/RTS0 (io), 52 P5.4/T1OUTA/DCD0 (io), 53 P5.3 (io), 54 HW0SW1 (io), 55 P5.1/SDI (io), 56 OSCOUT (out), 57 VSS (power), 58 OSCIN (in), 59 ~{RESET} (in), 60 P1.0/A8 (io), 61 P1.1/A9 (io), 62 P1.2/A10 (io), 63 P1.3/A11 (io), 64 P1.4/A12 (io), 65 P1.5/A13 (io), 66 P1.6/A14 (io), 67 P1.7/A15 (io), 68 P6.0 (io), 69 P6.1 (io), 70 P6.2 (io), 71 P6.3 (io), 72 P6.4 (io), 73 P6.5/R/~{W} (io), 74 P6.6 (io), 75 P0.0/AD0 (io), 76 P0.1/AD1 (io), 77 P0.2/AD2 (io), 78 P0.3/AD3 (io), 79 P0.4/AD4 (io), 80 P0.5/AD5 (io)